# EAGLE library part INTEL-ATOM-C2XXX (library auto-template)
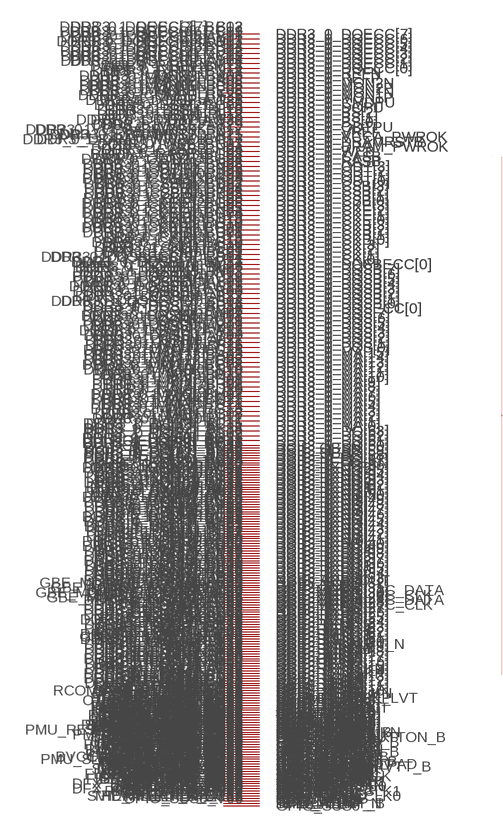
[diagram p0: symbol with the pads of INTEL-ATOM-FOOTPRINT; footprint INTEL-ATOM-FOOTPRINT]

Designator prefix -; gates G-DDR-Memory-0=DDR-Memory-0 G-DDR-Memory-1=DDR-Memory-1 G-Thermal-Signals=Thermal-Signals G-SVID-Signals=SVID-Signals G-Misc-Signals=Misc-Signals G-SATA2-Signals=SATA2-Signals G-SATA3-Signals=SATA3-Signals G-PCIe-Signals=PCIe-Signals G-GbE,-SMBus,-and-NC-SI-Signals=GbE,-SMBus,-and-NC-SI-Signals G-GbE-EEPROM-Signals=GbE-EEPROM-Signals G-LPC-Interface-Signals=LPC-Interface-Signals G-RTC-Well-Signals=RTC-Well-Signals G-GPIO-SUS-Signals=GPIO-SUS-Signals G-PMU-Signals=PMU-Signals G-USB-2-Signals=USB-2-Signals G-SPI-Signals=SPI-Signals G-GPIO-DFX-Signals=GPIO-DFX-Signals G-Clock-Receiver-Signals=Clock-Receiver-Signals G-Tap-Port/ITP-Signals=Tap-Port/ITP-Signals G-Reserved-Signals=Reserved-Signals

## INTEL-ATOM-C2XXX  [INTEL-ATOM-FOOTPRINT]
BRTCX1_PAD_AJ65  G-RTC-Well-Signals:BRTCX1_PAD
BRTCX2_PAD_AJ63  G-RTC-Well-Signals:BRTCX2_PAD
BVCCRTC_EXTPAD_AD55  G-RTC-Well-Signals:BVCCRTC_EXTPAD
CLK14_IN_AM56  G-Clock-Receiver-Signals:CLK14_IN
COREPWROK_AH60  G-RTC-Well-Signals:COREPWROK
CPU_RESET_B_Y63  G-PMU-Signals:CPU_RESET_B
CTBTRIGINOUT_AM47  G-GPIO-DFX-Signals:CTBTRIGINOUT
CTBTRIGOUT_AL47  G-GPIO-DFX-Signals:CTBTRIGOUT
CX_PRDY_B_AW56  G-Tap-Port/ITP-Signals:CX_PRDY_B
CX_PREQ_B_AY53  G-Tap-Port/ITP-Signals:CX_PREQ_B
DDR3_0_BS[0]_BL12  G-DDR-Memory-0:DDR3_0_BS[0]
DDR3_0_BS[1]_BL10  G-DDR-Memory-0:DDR3_0_BS[1]
DDR3_0_BS[2]_BC08  G-DDR-Memory-0:DDR3_0_BS[2]
DDR3_0_CASB_BH26  G-DDR-Memory-0:DDR3_0_CASB
DDR3_0_CK[0]_BA21  G-DDR-Memory-0:DDR3_0_CK[0]
DDR3_0_CK[1]_BF21  G-DDR-Memory-0:DDR3_0_CK[1]
DDR3_0_CK[2]_BG19  G-DDR-Memory-0:DDR3_0_CK[2]
DDR3_0_CK[3]_BB19  G-DDR-Memory-0:DDR3_0_CK[3]
DDR3_0_CKB[0]_BC21  G-DDR-Memory-0:DDR3_0_CKB[0]
DDR3_0_CKB[1]_BG21  G-DDR-Memory-0:DDR3_0_CKB[1]
DDR3_0_CKB[2]_BH19  G-DDR-Memory-0:DDR3_0_CKB[2]
DDR3_0_CKB[3]_BD19  G-DDR-Memory-0:DDR3_0_CKB[3]
DDR3_0_CKE[0]_BG04  G-DDR-Memory-0:DDR3_0_CKE[0]
DDR3_0_CKE[1]_BH05  G-DDR-Memory-0:DDR3_0_CKE[1]
DDR3_0_CKE[2]_BG05  G-DDR-Memory-0:DDR3_0_CKE[2]
DDR3_0_CKE[3]_BH03  G-DDR-Memory-0:DDR3_0_CKE[3]
DDR3_0_CMDPU_BA26  G-DDR-Memory-0:DDR3_0_CMDPU
DDR3_0_CSB[0]_BE25  G-DDR-Memory-0:DDR3_0_CSB[0]
DDR3_0_CSB[1]_BB25  G-DDR-Memory-0:DDR3_0_CSB[1]
DDR3_0_CSB[2]_BD23  G-DDR-Memory-0:DDR3_0_CSB[2]
DDR3_0_CSB[3]_BG26  G-DDR-Memory-0:DDR3_0_CSB[3]
DDR3_0_DQ[0]_AM15  G-DDR-Memory-0:DDR3_0_DQ[0]
DDR3_0_DQ[1]_AM14  G-DDR-Memory-0:DDR3_0_DQ[1]
DDR3_0_DQ[2]_AL08  G-DDR-Memory-0:DDR3_0_DQ[2]
DDR3_0_DQ[3]_AM08  G-DDR-Memory-0:DDR3_0_DQ[3]
DDR3_0_DQ[4]_AM17  G-DDR-Memory-0:DDR3_0_DQ[4]
DDR3_0_DQ[5]_AL15  G-DDR-Memory-0:DDR3_0_DQ[5]
DDR3_0_DQ[6]_AM11  G-DDR-Memory-0:DDR3_0_DQ[6]
DDR3_0_DQ[7]_AM09  G-DDR-Memory-0:DDR3_0_DQ[7]
DDR3_0_DQ[8]_AR14  G-DDR-Memory-0:DDR3_0_DQ[8]
DDR3_0_DQ[9]_AT13  G-DDR-Memory-0:DDR3_0_DQ[9]
DDR3_0_DQ[10]_AT10  G-DDR-Memory-0:DDR3_0_DQ[10]
DDR3_0_DQ[11]_AR11  G-DDR-Memory-0:DDR3_0_DQ[11]
DDR3_0_DQ[12]_AR16  G-DDR-Memory-0:DDR3_0_DQ[12]
DDR3_0_DQ[13]_AT14  G-DDR-Memory-0:DDR3_0_DQ[13]
DDR3_0_DQ[14]_AT08  G-DDR-Memory-0:DDR3_0_DQ[14]
DDR3_0_DQ[15]_AR10  G-DDR-Memory-0:DDR3_0_DQ[15]
DDR3_0_DQ[16]_AY09  G-DDR-Memory-0:DDR3_0_DQ[16]
DDR3_0_DQ[17]_AY11  G-DDR-Memory-0:DDR3_0_DQ[17]
DDR3_0_DQ[18]_AY15  G-DDR-Memory-0:DDR3_0_DQ[18]
DDR3_0_DQ[19]_AW17  G-DDR-Memory-0:DDR3_0_DQ[19]
DDR3_0_DQ[20]_AW08  G-DDR-Memory-0:DDR3_0_DQ[20]
DDR3_0_DQ[21]_AY08  G-DDR-Memory-0:DDR3_0_DQ[21]
DDR3_0_DQ[22]_AY14  G-DDR-Memory-0:DDR3_0_DQ[22]
DDR3_0_DQ[23]_AW15  G-DDR-Memory-0:DDR3_0_DQ[23]
DDR3_0_DQ[24]_AN04  G-DDR-Memory-0:DDR3_0_DQ[24]
DDR3_0_DQ[25]_AN02  G-DDR-Memory-0:DDR3_0_DQ[25]
DDR3_0_DQ[26]_AU01  G-DDR-Memory-0:DDR3_0_DQ[26]
DDR3_0_DQ[27]_AU03  G-DDR-Memory-0:DDR3_0_DQ[27]
DDR3_0_DQ[28]_AL02  G-DDR-Memory-0:DDR3_0_DQ[28]
DDR3_0_DQ[29]_AL04  G-DDR-Memory-0:DDR3_0_DQ[29]
DDR3_0_DQ[30]_AR02  G-DDR-Memory-0:DDR3_0_DQ[30]
DDR3_0_DQ[31]_AR04  G-DDR-Memory-0:DDR3_0_DQ[31]
DDR3_0_DQ[32]_BA32  G-DDR-Memory-0:DDR3_0_DQ[32]
DDR3_0_DQ[33]_BA30  G-DDR-Memory-0:DDR3_0_DQ[33]
DDR3_0_DQ[34]_BF30  G-DDR-Memory-0:DDR3_0_DQ[34]
DDR3_0_DQ[35]_BD30  G-DDR-Memory-0:DDR3_0_DQ[35]
DDR3_0_DQ[36]_BB32  G-DDR-Memory-0:DDR3_0_DQ[36]
DDR3_0_DQ[37]_AY30  G-DDR-Memory-0:DDR3_0_DQ[37]
DDR3_0_DQ[38]_BG29  G-DDR-Memory-0:DDR3_0_DQ[38]
DDR3_0_DQ[39]_BG30  G-DDR-Memory-0:DDR3_0_DQ[39]
DDR3_0_DQ[40]_BL16  G-DDR-Memory-0:DDR3_0_DQ[40]
DDR3_0_DQ[41]_BL17  G-DDR-Memory-0:DDR3_0_DQ[41]
DDR3_0_DQ[42]_BL21  G-DDR-Memory-0:DDR3_0_DQ[42]
DDR3_0_DQ[43]_BN21  G-DDR-Memory-0:DDR3_0_DQ[43]
DDR3_0_DQ[44]_BM16  G-DDR-Memory-0:DDR3_0_DQ[44]
DDR3_0_DQ[45]_BP16  G-DDR-Memory-0:DDR3_0_DQ[45]
DDR3_0_DQ[46]_BP19  G-DDR-Memory-0:DDR3_0_DQ[46]
DDR3_0_DQ[47]_BN19  G-DDR-Memory-0:DDR3_0_DQ[47]
DDR3_0_DQ[48]_BM25  G-DDR-Memory-0:DDR3_0_DQ[48]
DDR3_0_DQ[49]_BP25  G-DDR-Memory-0:DDR3_0_DQ[49]
DDR3_0_DQ[50]_BL28  G-DDR-Memory-0:DDR3_0_DQ[50]
DDR3_0_DQ[51]_BN28  G-DDR-Memory-0:DDR3_0_DQ[51]
DDR3_0_DQ[52]_BL23  G-DDR-Memory-0:DDR3_0_DQ[52]
DDR3_0_DQ[53]_BN23  G-DDR-Memory-0:DDR3_0_DQ[53]
DDR3_0_DQ[54]_BM27  G-DDR-Memory-0:DDR3_0_DQ[54]
DDR3_0_DQ[55]_BP28  G-DDR-Memory-0:DDR3_0_DQ[55]
DDR3_0_DQ[56]_BN32  G-DDR-Memory-0:DDR3_0_DQ[56]
DDR3_0_DQ[57]_BK32  G-DDR-Memory-0:DDR3_0_DQ[57]
DDR3_0_DQ[58]_BN35  G-DDR-Memory-0:DDR3_0_DQ[58]
DDR3_0_DQ[59]_BM36  G-DDR-Memory-0:DDR3_0_DQ[59]
DDR3_0_DQ[60]_BM31  G-DDR-Memory-0:DDR3_0_DQ[60]
DDR3_0_DQ[61]_BL32  G-DDR-Memory-0:DDR3_0_DQ[61]
DDR3_0_DQ[62]_BK35  G-DDR-Memory-0:DDR3_0_DQ[62]
DDR3_0_DQ[63]_BL35  G-DDR-Memory-0:DDR3_0_DQ[63]
DDR3_0_DQECC[0]_AY04  G-DDR-Memory-0:DDR3_0_DQECC[0]
DDR3_0_DQECC[1]_AY02  G-DDR-Memory-0:DDR3_0_DQECC[1]
DDR3_0_DQECC[2]_BD02  G-DDR-Memory-0:DDR3_0_DQECC[2]
DDR3_0_DQECC[3]_BD04  G-DDR-Memory-0:DDR3_0_DQECC[3]
DDR3_0_DQECC[4]_AW03  G-DDR-Memory-0:DDR3_0_DQECC[4]
DDR3_0_DQECC[5]_AY01  G-DDR-Memory-0:DDR3_0_DQECC[5]
DDR3_0_DQECC[6]_BC01  G-DDR-Memory-0:DDR3_0_DQECC[6]
DDR3_0_DQECC[7]_BC03  G-DDR-Memory-0:DDR3_0_DQECC[7]
DDR3_0_DQPU_AW21  G-DDR-Memory-0:DDR3_0_DQPU
DDR3_0_DQS[0]_AL11  G-DDR-Memory-0:DDR3_0_DQS[0]
DDR3_0_DQS[1]_AT07  G-DDR-Memory-0:DDR3_0_DQS[1]
DDR3_0_DQS[2]_AW12  G-DDR-Memory-0:DDR3_0_DQS[2]
DDR3_0_DQS[3]_AP03  G-DDR-Memory-0:DDR3_0_DQS[3]
DDR3_0_DQS[4]_BD29  G-DDR-Memory-0:DDR3_0_DQS[4]
DDR3_0_DQS[5]_BM18  G-DDR-Memory-0:DDR3_0_DQS[5]
DDR3_0_DQS[6]_BN26  G-DDR-Memory-0:DDR3_0_DQS[6]
DDR3_0_DQS[7]_BP34  G-DDR-Memory-0:DDR3_0_DQS[7]
DDR3_0_DQSB[0]_AL12  G-DDR-Memory-0:DDR3_0_DQSB[0]
DDR3_0_DQSB[1]_AR07  G-DDR-Memory-0:DDR3_0_DQSB[1]
DDR3_0_DQSB[2]_AW11  G-DDR-Memory-0:DDR3_0_DQSB[2]
DDR3_0_DQSB[3]_AP01  G-DDR-Memory-0:DDR3_0_DQSB[3]
DDR3_0_DQSB[4]_BC29  G-DDR-Memory-0:DDR3_0_DQSB[4]
DDR3_0_DQSB[5]_BN17  G-DDR-Memory-0:DDR3_0_DQSB[5]
DDR3_0_DQSB[6]_BL26  G-DDR-Memory-0:DDR3_0_DQSB[6]
DDR3_0_DQSB[7]_BM34  G-DDR-Memory-0:DDR3_0_DQSB[7]
DDR3_0_DQSBECC[0]_BB04  G-DDR-Memory-0:DDR3_0_DQSBECC[0]
DDR3_0_DQSECC[0]_BB02  G-DDR-Memory-0:DDR3_0_DQSECC[0]
DDR3_0_DRAM_PWROK_BG17  G-DDR-Memory-0:DDR3_0_DRAM_PWROK
DDR3_0_DRAMRSTB_BA25  G-DDR-Memory-0:DDR3_0_DRAMRSTB
DDR3_0_MA[0]_BH11  G-DDR-Memory-0:DDR3_0_MA[0]
DDR3_0_MA[1]_BL08  G-DDR-Memory-0:DDR3_0_MA[1]
DDR3_0_MA[2]_BG13  G-DDR-Memory-0:DDR3_0_MA[2]
DDR3_0_MA[3]_BG11  G-DDR-Memory-0:DDR3_0_MA[3]
DDR3_0_MA[4]_BD13  G-DDR-Memory-0:DDR3_0_MA[4]
DDR3_0_MA[5]_BM07  G-DDR-Memory-0:DDR3_0_MA[5]
DDR3_0_MA[6]_BD10  G-DDR-Memory-0:DDR3_0_MA[6]
DDR3_0_MA[7]_BH08  G-DDR-Memory-0:DDR3_0_MA[7]
DDR3_0_MA[8]_BD08  G-DDR-Memory-0:DDR3_0_MA[8]
DDR3_0_MA[9]_BD15  G-DDR-Memory-0:DDR3_0_MA[9]
DDR3_0_MA[10]_BN10  G-DDR-Memory-0:DDR3_0_MA[10]
DDR3_0_MA[11]_BG08  G-DDR-Memory-0:DDR3_0_MA[11]
DDR3_0_MA[12]_BD07  G-DDR-Memory-0:DDR3_0_MA[12]
DDR3_0_MA[13]_BA23  G-DDR-Memory-0:DDR3_0_MA[13]
DDR3_0_MA[14]_BC11  G-DDR-Memory-0:DDR3_0_MA[14]
DDR3_0_MA[15]_BF15  G-DDR-Memory-0:DDR3_0_MA[15]
DDR3_0_MON1N_BP06  G-DDR-Memory-0:DDR3_0_MON1N
DDR3_0_MON1P_BP08  G-DDR-Memory-0:DDR3_0_MON1P
DDR3_0_MON2N_BK03  G-DDR-Memory-0:DDR3_0_MON2N
DDR3_0_MON2P_BK05  G-DDR-Memory-0:DDR3_0_MON2P
DDR3_0_ODT[0]_BD26  G-DDR-Memory-0:DDR3_0_ODT[0]
DDR3_0_ODT[1]_BB26  G-DDR-Memory-0:DDR3_0_ODT[1]
DDR3_0_ODT[2]_BH25  G-DDR-Memory-0:DDR3_0_ODT[2]
DDR3_0_ODT[3]_BG25  G-DDR-Memory-0:DDR3_0_ODT[3]
DDR3_0_ODTPU_AW20  G-DDR-Memory-0:DDR3_0_ODTPU
DDR3_0_RASB_BG23  G-DDR-Memory-0:DDR3_0_RASB
DDR3_0_REFN_BM13  G-DDR-Memory-0:DDR3_0_REFN
DDR3_0_REFP_BN12  G-DDR-Memory-0:DDR3_0_REFP
DDR3_0_VCCA_PWROK_BE17  G-DDR-Memory-0:DDR3_0_VCCA_PWROK
DDR3_0_VREF_AY29  G-DDR-Memory-0:DDR3_0_VREF
DDR3_0_WEB_BC23  G-DDR-Memory-0:DDR3_0_WEB
DDR3_1_BS[0]_N18  G-DDR-Memory-1:DDR3_1_BS[0]
DDR3_1_BS[1]_H18  G-DDR-Memory-1:DDR3_1_BS[1]
DDR3_1_BS[2]_H25  G-DDR-Memory-1:DDR3_1_BS[2]
DDR3_1_CASB_H04  G-DDR-Memory-1:DDR3_1_CASB
DDR3_1_CK[0]_C09  G-DDR-Memory-1:DDR3_1_CK[0]
DDR3_1_CK[1]_G09  G-DDR-Memory-1:DDR3_1_CK[1]
DDR3_1_CK[2]_H10  G-DDR-Memory-1:DDR3_1_CK[2]
DDR3_1_CK[3]_J13  G-DDR-Memory-1:DDR3_1_CK[3]
DDR3_1_CKB[0]_D08  G-DDR-Memory-1:DDR3_1_CKB[0]
DDR3_1_CKB[1]_H09  G-DDR-Memory-1:DDR3_1_CKB[1]
DDR3_1_CKB[2]_G10  G-DDR-Memory-1:DDR3_1_CKB[2]
DDR3_1_CKB[3]_L13  G-DDR-Memory-1:DDR3_1_CKB[3]
DDR3_1_CKE[0]_N26  G-DDR-Memory-1:DDR3_1_CKE[0]
DDR3_1_CKE[1]_N25  G-DDR-Memory-1:DDR3_1_CKE[1]
DDR3_1_CKE[2]_L25  G-DDR-Memory-1:DDR3_1_CKE[2]
DDR3_1_CKE[3]_L26  G-DDR-Memory-1:DDR3_1_CKE[3]
DDR3_1_CMDPU_T25  G-DDR-Memory-1:DDR3_1_CMDPU
DDR3_1_CSB[0]_K03  G-DDR-Memory-1:DDR3_1_CSB[0]
DDR3_1_CSB[1]_N04  G-DDR-Memory-1:DDR3_1_CSB[1]
DDR3_1_CSB[2]_L07  G-DDR-Memory-1:DDR3_1_CSB[2]
DDR3_1_CSB[3]_K04  G-DDR-Memory-1:DDR3_1_CSB[3]
DDR3_1_DQ[0]_B39  G-DDR-Memory-1:DDR3_1_DQ[0]
DDR3_1_DQ[1]_D39  G-DDR-Memory-1:DDR3_1_DQ[1]
DDR3_1_DQ[2]_B35  G-DDR-Memory-1:DDR3_1_DQ[2]
DDR3_1_DQ[3]_D35  G-DDR-Memory-1:DDR3_1_DQ[3]
DDR3_1_DQ[4]_A39  G-DDR-Memory-1:DDR3_1_DQ[4]
DDR3_1_DQ[5]_C40  G-DDR-Memory-1:DDR3_1_DQ[5]
DDR3_1_DQ[6]_A36  G-DDR-Memory-1:DDR3_1_DQ[6]
DDR3_1_DQ[7]_C36  G-DDR-Memory-1:DDR3_1_DQ[7]
DDR3_1_DQ[8]_B32  G-DDR-Memory-1:DDR3_1_DQ[8]
DDR3_1_DQ[9]_C31  G-DDR-Memory-1:DDR3_1_DQ[9]
DDR3_1_DQ[10]_A27  G-DDR-Memory-1:DDR3_1_DQ[10]
DDR3_1_DQ[11]_C27  G-DDR-Memory-1:DDR3_1_DQ[11]
DDR3_1_DQ[12]_E32  G-DDR-Memory-1:DDR3_1_DQ[12]
DDR3_1_DQ[13]_D32  G-DDR-Memory-1:DDR3_1_DQ[13]
DDR3_1_DQ[14]_D28  G-DDR-Memory-1:DDR3_1_DQ[14]
DDR3_1_DQ[15]_B28  G-DDR-Memory-1:DDR3_1_DQ[15]
DDR3_1_DQ[16]_D23  G-DDR-Memory-1:DDR3_1_DQ[16]
DDR3_1_DQ[17]_B23  G-DDR-Memory-1:DDR3_1_DQ[17]
DDR3_1_DQ[18]_D19  G-DDR-Memory-1:DDR3_1_DQ[18]
DDR3_1_DQ[19]_B19  G-DDR-Memory-1:DDR3_1_DQ[19]
DDR3_1_DQ[20]_C24  G-DDR-Memory-1:DDR3_1_DQ[20]
DDR3_1_DQ[21]_D24  G-DDR-Memory-1:DDR3_1_DQ[21]
DDR3_1_DQ[22]_B21  G-DDR-Memory-1:DDR3_1_DQ[22]
DDR3_1_DQ[23]_D21  G-DDR-Memory-1:DDR3_1_DQ[23]
DDR3_1_DQ[24]_H30  G-DDR-Memory-1:DDR3_1_DQ[24]
DDR3_1_DQ[25]_H29  G-DDR-Memory-1:DDR3_1_DQ[25]
DDR3_1_DQ[26]_N32  G-DDR-Memory-1:DDR3_1_DQ[26]
DDR3_1_DQ[27]_L32  G-DDR-Memory-1:DDR3_1_DQ[27]
DDR3_1_DQ[28]_H32  G-DDR-Memory-1:DDR3_1_DQ[28]
DDR3_1_DQ[29]_J30  G-DDR-Memory-1:DDR3_1_DQ[29]
DDR3_1_DQ[30]_M30  G-DDR-Memory-1:DDR3_1_DQ[30]
DDR3_1_DQ[31]_P30  G-DDR-Memory-1:DDR3_1_DQ[31]
DDR3_1_DQ[32]_R15  G-DDR-Memory-1:DDR3_1_DQ[32]
DDR3_1_DQ[33]_R14  G-DDR-Memory-1:DDR3_1_DQ[33]
DDR3_1_DQ[34]_R09  G-DDR-Memory-1:DDR3_1_DQ[34]
DDR3_1_DQ[35]_R11  G-DDR-Memory-1:DDR3_1_DQ[35]
DDR3_1_DQ[36]_T17  G-DDR-Memory-1:DDR3_1_DQ[36]
DDR3_1_DQ[37]_U15  G-DDR-Memory-1:DDR3_1_DQ[37]
DDR3_1_DQ[38]_R08  G-DDR-Memory-1:DDR3_1_DQ[38]
DDR3_1_DQ[39]_U08  G-DDR-Memory-1:DDR3_1_DQ[39]
DDR3_1_DQ[40]_U04  G-DDR-Memory-1:DDR3_1_DQ[40]
DDR3_1_DQ[41]_U02  G-DDR-Memory-1:DDR3_1_DQ[41]
DDR3_1_DQ[42]_AB02  G-DDR-Memory-1:DDR3_1_DQ[42]
DDR3_1_DQ[43]_AB04  G-DDR-Memory-1:DDR3_1_DQ[43]
DDR3_1_DQ[44]_T03  G-DDR-Memory-1:DDR3_1_DQ[44]
DDR3_1_DQ[45]_T01  G-DDR-Memory-1:DDR3_1_DQ[45]
DDR3_1_DQ[46]_Y04  G-DDR-Memory-1:DDR3_1_DQ[46]
DDR3_1_DQ[47]_Y02  G-DDR-Memory-1:DDR3_1_DQ[47]
DDR3_1_DQ[48]_W14  G-DDR-Memory-1:DDR3_1_DQ[48]
DDR3_1_DQ[49]_W13  G-DDR-Memory-1:DDR3_1_DQ[49]
DDR3_1_DQ[50]_W10  G-DDR-Memory-1:DDR3_1_DQ[50]
DDR3_1_DQ[51]_Y11  G-DDR-Memory-1:DDR3_1_DQ[51]
DDR3_1_DQ[52]_Y16  G-DDR-Memory-1:DDR3_1_DQ[52]
DDR3_1_DQ[53]_Y14  G-DDR-Memory-1:DDR3_1_DQ[53]
DDR3_1_DQ[54]_W08  G-DDR-Memory-1:DDR3_1_DQ[54]
DDR3_1_DQ[55]_Y10  G-DDR-Memory-1:DDR3_1_DQ[55]
DDR3_1_DQ[56]_AC08  G-DDR-Memory-1:DDR3_1_DQ[56]
DDR3_1_DQ[57]_AD08  G-DDR-Memory-1:DDR3_1_DQ[57]
DDR3_1_DQ[58]_AD15  G-DDR-Memory-1:DDR3_1_DQ[58]
DDR3_1_DQ[59]_AC17  G-DDR-Memory-1:DDR3_1_DQ[59]
DDR3_1_DQ[60]_AC11  G-DDR-Memory-1:DDR3_1_DQ[60]
DDR3_1_DQ[61]_AC09  G-DDR-Memory-1:DDR3_1_DQ[61]
DDR3_1_DQ[62]_AC14  G-DDR-Memory-1:DDR3_1_DQ[62]
DDR3_1_DQ[63]_AC15  G-DDR-Memory-1:DDR3_1_DQ[63]
DDR3_1_DQECC[0]_D15  G-DDR-Memory-1:DDR3_1_DQECC[0]
DDR3_1_DQECC[1]_C15  G-DDR-Memory-1:DDR3_1_DQECC[1]
DDR3_1_DQECC[2]_D12  G-DDR-Memory-1:DDR3_1_DQECC[2]
DDR3_1_DQECC[3]_E12  G-DDR-Memory-1:DDR3_1_DQECC[3]
DDR3_1_DQECC[4]_D17  G-DDR-Memory-1:DDR3_1_DQECC[4]
DDR3_1_DQECC[5]_B17  G-DDR-Memory-1:DDR3_1_DQECC[5]
DDR3_1_DQECC[6]_C13  G-DDR-Memory-1:DDR3_1_DQECC[6]
DDR3_1_DQECC[7]_B12  G-DDR-Memory-1:DDR3_1_DQECC[7]
DDR3_1_DQPU_T26  G-DDR-Memory-1:DDR3_1_DQPU
DDR3_1_DQS[0]_D37  G-DDR-Memory-1:DDR3_1_DQS[0]
DDR3_1_DQS[1]_D30  G-DDR-Memory-1:DDR3_1_DQS[1]
DDR3_1_DQS[2]_A21  G-DDR-Memory-1:DDR3_1_DQS[2]
DDR3_1_DQS[3]_M29  G-DDR-Memory-1:DDR3_1_DQS[3]
DDR3_1_DQS[4]_U11  G-DDR-Memory-1:DDR3_1_DQS[4]
DDR3_1_DQS[5]_W01  G-DDR-Memory-1:DDR3_1_DQS[5]
DDR3_1_DQS[6]_Y07  G-DDR-Memory-1:DDR3_1_DQS[6]
DDR3_1_DQS[7]_AD12  G-DDR-Memory-1:DDR3_1_DQS[7]
DDR3_1_DQSB[0]_B37  G-DDR-Memory-1:DDR3_1_DQSB[0]
DDR3_1_DQSB[1]_B30  G-DDR-Memory-1:DDR3_1_DQSB[1]
DDR3_1_DQSB[2]_C22  G-DDR-Memory-1:DDR3_1_DQSB[2]
DDR3_1_DQSB[3]_L29  G-DDR-Memory-1:DDR3_1_DQSB[3]
DDR3_1_DQSB[4]_U12  G-DDR-Memory-1:DDR3_1_DQSB[4]
DDR3_1_DQSB[5]_W03  G-DDR-Memory-1:DDR3_1_DQSB[5]
DDR3_1_DQSB[6]_W07  G-DDR-Memory-1:DDR3_1_DQSB[6]
DDR3_1_DQSB[7]_AD11  G-DDR-Memory-1:DDR3_1_DQSB[7]
DDR3_1_DQSBECC[0]_D14  G-DDR-Memory-1:DDR3_1_DQSBECC[0]
DDR3_1_DQSECC[0]_B14  G-DDR-Memory-1:DDR3_1_DQSECC[0]
DDR3_1_DRAM_PWROK_L17  G-DDR-Memory-1:DDR3_1_DRAM_PWROK
DDR3_1_DRAMRSTB_N11  G-DDR-Memory-1:DDR3_1_DRAMRSTB
DDR3_1_MA[0]_H17  G-DDR-Memory-1:DDR3_1_MA[0]
DDR3_1_MA[1]_G17  G-DDR-Memory-1:DDR3_1_MA[1]
DDR3_1_MA[2]_G18  G-DDR-Memory-1:DDR3_1_MA[2]
DDR3_1_MA[3]_P21  G-DDR-Memory-1:DDR3_1_MA[3]
DDR3_1_MA[4]_M21  G-DDR-Memory-1:DDR3_1_MA[4]
DDR3_1_MA[5]_H22  G-DDR-Memory-1:DDR3_1_MA[5]
DDR3_1_MA[6]_J21  G-DDR-Memory-1:DDR3_1_MA[6]
DDR3_1_MA[7]_J22  G-DDR-Memory-1:DDR3_1_MA[7]
DDR3_1_MA[8]_H21  G-DDR-Memory-1:DDR3_1_MA[8]
DDR3_1_MA[9]_M22  G-DDR-Memory-1:DDR3_1_MA[9]
DDR3_1_MA[10]_L18  G-DDR-Memory-1:DDR3_1_MA[10]
DDR3_1_MA[11]_P22  G-DDR-Memory-1:DDR3_1_MA[11]
DDR3_1_MA[12]_G25  G-DDR-Memory-1:DDR3_1_MA[12]
DDR3_1_MA[13]_G03  G-DDR-Memory-1:DDR3_1_MA[13]
DDR3_1_MA[14]_G26  G-DDR-Memory-1:DDR3_1_MA[14]
DDR3_1_MA[15]_H26  G-DDR-Memory-1:DDR3_1_MA[15]
DDR3_1_MON1N_C05  G-DDR-Memory-1:DDR3_1_MON1N
DDR3_1_MON1P_E05  G-DDR-Memory-1:DDR3_1_MON1P
DDR3_1_MON2N_A06  G-DDR-Memory-1:DDR3_1_MON2N
DDR3_1_MON2P_A08  G-DDR-Memory-1:DDR3_1_MON2P
DDR3_1_ODT[0]_L02  G-DDR-Memory-1:DDR3_1_ODT[0]
DDR3_1_ODT[1]_N02  G-DDR-Memory-1:DDR3_1_ODT[1]
DDR3_1_ODT[2]_N08  G-DDR-Memory-1:DDR3_1_ODT[2]
DDR3_1_ODT[3]_L04  G-DDR-Memory-1:DDR3_1_ODT[3]
DDR3_1_ODTPU_T32  G-DDR-Memory-1:DDR3_1_ODTPU
DDR3_1_RASB_L08  G-DDR-Memory-1:DDR3_1_RASB
DDR3_1_REFN_L14  G-DDR-Memory-1:DDR3_1_REFN
DDR3_1_REFP_J14  G-DDR-Memory-1:DDR3_1_REFP
DDR3_1_VCCA_PWROK_N17  G-DDR-Memory-1:DDR3_1_VCCA_PWROK
DDR3_1_VREF_R29  G-DDR-Memory-1:DDR3_1_VREF
DDR3_1_WEB_N07  G-DDR-Memory-1:DDR3_1_WEB
DFX_PORT[0]_BC64  G-GPIO-DFX-Signals:DFX_PORT[0]
DFX_PORT[1]_AY58  G-GPIO-DFX-Signals:DFX_PORT[1]
DFX_PORT[2]_AW58  G-GPIO-DFX-Signals:DFX_PORT[2]
DFX_PORT[3]_AR57  G-GPIO-DFX-Signals:DFX_PORT[3]
DFX_PORT[4]_AT54  G-GPIO-DFX-Signals:DFX_PORT[4]
DFX_PORT[5]_AY56  G-GPIO-DFX-Signals:DFX_PORT[5]
DFX_PORT[6]_AY63  G-GPIO-DFX-Signals:DFX_PORT[6]
DFX_PORT[7]_AW62  G-GPIO-DFX-Signals:DFX_PORT[7]
DFX_PORT[8]_AY59  G-GPIO-DFX-Signals:DFX_PORT[8]
DFX_PORT[9]_AT60  G-GPIO-DFX-Signals:DFX_PORT[9]
DFX_PORT[10]_BB63  G-GPIO-DFX-Signals:DFX_PORT[10]
DFX_PORT[11]_AT59  G-GPIO-DFX-Signals:DFX_PORT[11]
DFX_PORT[12]_AW64  G-GPIO-DFX-Signals:DFX_PORT[12]
DFX_PORT[13]_AW66  G-GPIO-DFX-Signals:DFX_PORT[13]
DFX_PORT[14]_AY65  G-GPIO-DFX-Signals:DFX_PORT[14]
DFX_PORT[15]_AR59  G-GPIO-DFX-Signals:DFX_PORT[15]
DFX_PORT_CLK0_AV63  G-GPIO-DFX-Signals:DFX_PORT_CLK0
DFX_PORT_CLK1_AV65  G-GPIO-DFX-Signals:DFX_PORT_CLK1
ERROR0_B_AL65  G-Misc-Signals:ERROR0_B
ERROR1_B_AL62  G-Misc-Signals:ERROR1_B
ERROR2_B_AL63  G-Misc-Signals:ERROR2_B
FLEX_CLK_SE0_AH59  G-PCIe-Signals:FLEX_CLK_SE0
FLEX_CLK_SE1_AG56  G-PCIe-Signals:FLEX_CLK_SE1
GBE_EE_CS_N_R59  G-GbE-EEPROM-Signals:GBE_EE_CS_N
GBE_EE_DI_W51  G-GbE-EEPROM-Signals:GBE_EE_DI
GBE_EE_DO_W60  G-GbE-EEPROM-Signals:GBE_EE_DO
GBE_EE_SK_T50  G-GbE-EEPROM-Signals:GBE_EE_SK
GBE_LED0_P46  G-GbE,-SMBus,-and-NC-SI-Signals:GBE_LED0
GBE_LED1_W50  G-GbE,-SMBus,-and-NC-SI-Signals:GBE_LED1
GBE_LED2_P48  G-GbE,-SMBus,-and-NC-SI-Signals:GBE_LED2
GBE_LED3_R58  G-GbE,-SMBus,-and-NC-SI-Signals:GBE_LED3
GBE_MDIO0_I2C_CLK_W56  G-GbE,-SMBus,-and-NC-SI-Signals:GBE_MDIO0_I2C_CLK
GBE_MDIO0_I2C_DATA_W59  G-GbE,-SMBus,-and-NC-SI-Signals:GBE_MDIO0_I2C_DATA
GBE_MDIO1_I2C_CLK_Y54  G-GbE,-SMBus,-and-NC-SI-Signals:GBE_MDIO1_I2C_CLK
GBE_MDIO1_I2C_DATA_Y53  G-GbE,-SMBus,-and-NC-SI-Signals:GBE_MDIO1_I2C_DATA
GBE_OBSN_H50  G-GbE,-SMBus,-and-NC-SI-Signals:GBE_OBSN
GBE_OBSP_G50  G-GbE,-SMBus,-and-NC-SI-Signals:GBE_OBSP
GBE_REFCLKN_D50  G-GbE,-SMBus,-and-NC-SI-Signals:GBE_REFCLKN
GBE_REFCLKP_B50  G-GbE,-SMBus,-and-NC-SI-Signals:GBE_REFCLKP
GBE_RXN[0]_K48  G-GbE,-SMBus,-and-NC-SI-Signals:GBE_RXN[0]
GBE_RXN[1]_L46  G-GbE,-SMBus,-and-NC-SI-Signals:GBE_RXN[1]
GBE_RXN[2]_L44  G-GbE,-SMBus,-and-NC-SI-Signals:GBE_RXN[2]
GBE_RXN[3]_H42  G-GbE,-SMBus,-and-NC-SI-Signals:GBE_RXN[3]
GBE_RXP[0]_H48  G-GbE,-SMBus,-and-NC-SI-Signals:GBE_RXP[0]
GBE_RXP[1]_J46  G-GbE,-SMBus,-and-NC-SI-Signals:GBE_RXP[1]
GBE_RXP[2]_J44  G-GbE,-SMBus,-and-NC-SI-Signals:GBE_RXP[2]
GBE_RXP[3]_G42  G-GbE,-SMBus,-and-NC-SI-Signals:GBE_RXP[3]
GBE_SDP0_0_T58  G-GbE,-SMBus,-and-NC-SI-Signals:GBE_SDP0_0
GBE_SDP0_1_T48  G-GbE,-SMBus,-and-NC-SI-Signals:GBE_SDP0_1
GBE_SMBALRT_N_T55  G-GbE,-SMBus,-and-NC-SI-Signals:GBE_SMBALRT_N
GBE_SMBCLK_P50  G-GbE,-SMBus,-and-NC-SI-Signals:GBE_SMBCLK
GBE_SMBD_T59  G-GbE,-SMBus,-and-NC-SI-Signals:GBE_SMBD
GBE_TXN[0]_B48  G-GbE,-SMBus,-and-NC-SI-Signals:GBE_TXN[0]
GBE_TXN[1]_B46  G-GbE,-SMBus,-and-NC-SI-Signals:GBE_TXN[1]
GBE_TXN[2]_B44  G-GbE,-SMBus,-and-NC-SI-Signals:GBE_TXN[2]
GBE_TXN[3]_A42  G-GbE,-SMBus,-and-NC-SI-Signals:GBE_TXN[3]
GBE_TXP[0]_D48  G-GbE,-SMBus,-and-NC-SI-Signals:GBE_TXP[0]
GBE_TXP[1]_D46  G-GbE,-SMBus,-and-NC-SI-Signals:GBE_TXP[1]
GBE_TXP[2]_D44  G-GbE,-SMBus,-and-NC-SI-Signals:GBE_TXP[2]
GBE_TXP[3]_C42  G-GbE,-SMBus,-and-NC-SI-Signals:GBE_TXP[3]
GPIO_SUS0_V66  G-GPIO-SUS-Signals:GPIO_SUS0
GPIO_SUS1_W54  G-GbE,-SMBus,-and-NC-SI-Signals:GPIO_SUS1
GPIO_SUS2_T53  G-GPIO-SUS-Signals:GPIO_SUS2
HPLL_REFN_J37  G-Clock-Receiver-Signals:HPLL_REFN
HPLL_REFP_L37  G-Clock-Receiver-Signals:HPLL_REFP
IERR_B_AM52  G-Misc-Signals:IERR_B
ILB_SERIRQ_AT50  G-LPC-Interface-Signals:ILB_SERIRQ
LPC_AD0_AG54  G-LPC-Interface-Signals:LPC_AD0
LPC_AD1_AM53  G-LPC-Interface-Signals:LPC_AD1
LPC_AD2_AL53  G-LPC-Interface-Signals:LPC_AD2
LPC_AD3_AG59  G-LPC-Interface-Signals:LPC_AD3
LPC_CLKOUT0_AG51  G-LPC-Interface-Signals:LPC_CLKOUT0
LPC_CLKOUT1_AM49  G-LPC-Interface-Signals:LPC_CLKOUT1
LPC_CLKRUNB_AH48  G-LPC-Interface-Signals:LPC_CLKRUNB
LPC_FRAMEB_AH56  G-LPC-Interface-Signals:LPC_FRAMEB
MCERR_B_AL52  G-Misc-Signals:MCERR_B
MEMHOT_B_AL46  G-Thermal-Signals:MEMHOT_B
NCSI_ARB_OUT_Y59  G-GbE,-SMBus,-and-NC-SI-Signals:NCSI_ARB_OUT
NCSI_RXD1_V63  G-GbE,-SMBus,-and-NC-SI-Signals:NCSI_RXD1
NMI_AL56  G-Misc-Signals:NMI
PCIE_OBSN_BA38  G-PCIe-Signals:PCIE_OBSN
PCIE_OBSP_BC38  G-PCIe-Signals:PCIE_OBSP
PCIE_REFCLKN_BD49  G-PCIe-Signals:PCIE_REFCLKN
PCIE_REFCLKP_BB49  G-PCIe-Signals:PCIE_REFCLKP
PCIE_RXN[0]_BE64  G-PCIe-Signals:PCIE_RXN[0]
PCIE_RXN[1]_BH64  G-PCIe-Signals:PCIE_RXN[1]
PCIE_RXN[2]_BK62  G-PCIe-Signals:PCIE_RXN[2]
PCIE_RXN[3]_BH58  G-PCIe-Signals:PCIE_RXN[3]
PCIE_RXN[4]_BH57  G-PCIe-Signals:PCIE_RXN[4]
PCIE_RXN[5]_BF54  G-PCIe-Signals:PCIE_RXN[5]
PCIE_RXN[6]_BG53  G-PCIe-Signals:PCIE_RXN[6]
PCIE_RXN[7]_BG50  G-PCIe-Signals:PCIE_RXN[7]
PCIE_RXN[8]_BH49  G-PCIe-Signals:PCIE_RXN[8]
PCIE_RXN[9]_BF46  G-PCIe-Signals:PCIE_RXN[9]
PCIE_RXN[10]_BG45  G-PCIe-Signals:PCIE_RXN[10]
PCIE_RXN[11]_BH42  G-PCIe-Signals:PCIE_RXN[11]
PCIE_RXN[12]_BG41  G-PCIe-Signals:PCIE_RXN[12]
PCIE_RXN[13]_BG38  G-PCIe-Signals:PCIE_RXN[13]
PCIE_RXN[14]_BF37  G-PCIe-Signals:PCIE_RXN[14]
PCIE_RXN[15]_BG34  G-PCIe-Signals:PCIE_RXN[15]
PCIE_RXP[0]_BE63  G-PCIe-Signals:PCIE_RXP[0]
PCIE_RXP[1]_BJ63  G-PCIe-Signals:PCIE_RXP[1]
PCIE_RXP[2]_BJ62  G-PCIe-Signals:PCIE_RXP[2]
PCIE_RXP[3]_BG58  G-PCIe-Signals:PCIE_RXP[3]
PCIE_RXP[4]_BG57  G-PCIe-Signals:PCIE_RXP[4]
PCIE_RXP[5]_BD54  G-PCIe-Signals:PCIE_RXP[5]
PCIE_RXP[6]_BF53  G-PCIe-Signals:PCIE_RXP[6]
PCIE_RXP[7]_BE50  G-PCIe-Signals:PCIE_RXP[7]
PCIE_RXP[8]_BG49  G-PCIe-Signals:PCIE_RXP[8]
PCIE_RXP[9]_BD46  G-PCIe-Signals:PCIE_RXP[9]
PCIE_RXP[10]_BF45  G-PCIe-Signals:PCIE_RXP[10]
PCIE_RXP[11]_BG42  G-PCIe-Signals:PCIE_RXP[11]
PCIE_RXP[12]_BE41  G-PCIe-Signals:PCIE_RXP[12]
PCIE_RXP[13]_BF38  G-PCIe-Signals:PCIE_RXP[13]
PCIE_RXP[14]_BD37  G-PCIe-Signals:PCIE_RXP[14]
PCIE_RXP[15]_BE34  G-PCIe-Signals:PCIE_RXP[15]
PCIE_TXN[0]_BL61  G-PCIe-Signals:PCIE_TXN[0]
PCIE_TXN[1]_BM58  G-PCIe-Signals:PCIE_TXN[1]
PCIE_TXN[2]_BN57  G-PCIe-Signals:PCIE_TXN[2]
PCIE_TXN[3]_BN55  G-PCIe-Signals:PCIE_TXN[3]
PCIE_TXN[4]_BK54  G-PCIe-Signals:PCIE_TXN[4]
PCIE_TXN[5]_BL53  G-PCIe-Signals:PCIE_TXN[5]
PCIE_TXN[6]_BM52  G-PCIe-Signals:PCIE_TXN[6]
PCIE_TXN[7]_BL50  G-PCIe-Signals:PCIE_TXN[7]
PCIE_TXN[8]_BM49  G-PCIe-Signals:PCIE_TXN[8]
PCIE_TXN[9]_BL48  G-PCIe-Signals:PCIE_TXN[9]
PCIE_TXN[10]_BL46  G-PCIe-Signals:PCIE_TXN[10]
PCIE_TXN[11]_BL44  G-PCIe-Signals:PCIE_TXN[11]
PCIE_TXN[12]_BM43  G-PCIe-Signals:PCIE_TXN[12]
PCIE_TXN[13]_BN41  G-PCIe-Signals:PCIE_TXN[13]
PCIE_TXN[14]_BK40  G-PCIe-Signals:PCIE_TXN[14]
PCIE_TXN[15]_BL39  G-PCIe-Signals:PCIE_TXN[15]
PCIE_TXP[0]_BK60  G-PCIe-Signals:PCIE_TXP[0]
PCIE_TXP[1]_BL59  G-PCIe-Signals:PCIE_TXP[1]
PCIE_TXP[2]_BL57  G-PCIe-Signals:PCIE_TXP[2]
PCIE_TXP[3]_BL55  G-PCIe-Signals:PCIE_TXP[3]
PCIE_TXP[4]_BM54  G-PCIe-Signals:PCIE_TXP[4]
PCIE_TXP[5]_BN53  G-PCIe-Signals:PCIE_TXP[5]
PCIE_TXP[6]_BL52  G-PCIe-Signals:PCIE_TXP[6]
PCIE_TXP[7]_BN50  G-PCIe-Signals:PCIE_TXP[7]
PCIE_TXP[8]_BP49  G-PCIe-Signals:PCIE_TXP[8]
PCIE_TXP[9]_BN48  G-PCIe-Signals:PCIE_TXP[9]
PCIE_TXP[10]_BN46  G-PCIe-Signals:PCIE_TXP[10]
PCIE_TXP[11]_BN44  G-PCIe-Signals:PCIE_TXP[11]
PCIE_TXP[12]_BP43  G-PCIe-Signals:PCIE_TXP[12]
PCIE_TXP[13]_BL41  G-PCIe-Signals:PCIE_TXP[13]
PCIE_TXP[14]_BM40  G-PCIe-Signals:PCIE_TXP[14]
PCIE_TXP[15]_BN39  G-PCIe-Signals:PCIE_TXP[15]
PMU_PLTRST_B_AE62  G-PMU-Signals:PMU_PLTRST_B
PMU_PWRBTN_B_AC49  G-PMU-Signals:PMU_PWRBTN_B
PMU_RESETBUTTON_B_AM58  G-PMU-Signals:PMU_RESETBUTTON_B
PMU_SLP_DDRVTT_B_AC52  G-PMU-Signals:PMU_SLP_DDRVTT_B
PMU_SLP_LAN_B_Y50  G-PMU-Signals:PMU_SLP_LAN_B
PMU_SLP_S3_B_AF65  G-PMU-Signals:PMU_SLP_S3_B
PMU_SLP_S45_B_V64  G-PMU-Signals:PMU_SLP_S45_B
PMU_SUSCLK_AD58  G-PMU-Signals:PMU_SUSCLK
PMU_WAKE_B_AD66  G-PMU-Signals:PMU_WAKE_B
PROCHOT_B_BB59  G-Thermal-Signals:PROCHOT_B
RCOMP_CORE_LVT_AG46  G-GPIO-DFX-Signals:RCOMP_CORE_LVT
RSMRST_B_AC47  G-RTC-Well-Signals:RSMRST_B
RTEST_B_AD50  G-RTC-Well-Signals:RTEST_B
SATA3_GP0_AH51  G-SATA3-Signals:SATA3_GP0
SATA3_LEDN_AH54  G-SATA3-Signals:SATA3_LEDN
SATA3_OBSN_R53  G-SATA3-Signals:SATA3_OBSN
SATA3_OBSP_R55  G-SATA3-Signals:SATA3_OBSP
SATA3_REFCLKN_L59  G-SATA3-Signals:SATA3_REFCLKN
SATA3_REFCLKP_L57  G-SATA3-Signals:SATA3_REFCLKP
SATA3_RXN[0]_M64  G-SATA3-Signals:SATA3_RXN[0]
SATA3_RXN[1]_L65  G-SATA3-Signals:SATA3_RXN[1]
SATA3_RXP[0]_M62  G-SATA3-Signals:SATA3_RXP[0]
SATA3_RXP[1]_L63  G-SATA3-Signals:SATA3_RXP[1]
SATA3_TXN[0]_T64  G-SATA3-Signals:SATA3_TXN[0]
SATA3_TXN[1]_R65  G-SATA3-Signals:SATA3_TXN[1]
SATA3_TXP[0]_R66  G-SATA3-Signals:SATA3_TXP[0]
SATA3_TXP[1]_R63  G-SATA3-Signals:SATA3_TXP[1]
SATA_GP0_AT63  G-SATA2-Signals:SATA_GP0
SATA_LEDN_AL49  G-SATA2-Signals:SATA_LEDN
SATA_OBSN_L52  G-SATA2-Signals:SATA_OBSN
SATA_OBSP_J52  G-SATA2-Signals:SATA_OBSP
SATA_REFCLKN_L54  G-SATA2-Signals:SATA_REFCLKN
SATA_REFCLKP_J54  G-SATA2-Signals:SATA_REFCLKP
SATA_RXN[0]_H63  G-SATA2-Signals:SATA_RXN[0]
SATA_RXN[1]_G64  G-SATA2-Signals:SATA_RXN[1]
SATA_RXN[2]_C62  G-SATA2-Signals:SATA_RXN[2]
SATA_RXN[3]_C60  G-SATA2-Signals:SATA_RXN[3]
SATA_RXP[0]_H62  G-SATA2-Signals:SATA_RXP[0]
SATA_RXP[1]_G62  G-SATA2-Signals:SATA_RXP[1]
SATA_RXP[2]_E62  G-SATA2-Signals:SATA_RXP[2]
SATA_RXP[3]_D60  G-SATA2-Signals:SATA_RXP[3]
SATA_TXN[0]_D57  G-SATA2-Signals:SATA_TXN[0]
SATA_TXN[1]_E57  G-SATA2-Signals:SATA_TXN[1]
SATA_TXN[2]_A54  G-SATA2-Signals:SATA_TXN[2]
SATA_TXN[3]_B53  G-SATA2-Signals:SATA_TXN[3]
SATA_TXP[0]_B57  G-SATA2-Signals:SATA_TXP[0]
SATA_TXP[1]_E58  G-SATA2-Signals:SATA_TXP[1]
SATA_TXP[2]_C54  G-SATA2-Signals:SATA_TXP[2]
SATA_TXP[3]_D53  G-SATA2-Signals:SATA_TXP[3]
SMB_CLK0_AN62  G-Misc-Signals:SMB_CLK0
SMB_CLK1_AR63  G-Misc-Signals:SMB_CLK1
SMB_CLK2_AR65  G-Misc-Signals:SMB_CLK2
SMB_DATA0_AP62  G-Misc-Signals:SMB_DATA0
SMB_DATA1_AN63  G-Misc-Signals:SMB_DATA1
SMB_DATA2_AN65  G-Misc-Signals:SMB_DATA2
SMBALRT_N0_AL58  G-Misc-Signals:SMBALRT_N0
SPI_CLK_AF46  G-SPI-Signals:SPI_CLK
SPI_CS0_B_Y65  G-SPI-Signals:SPI_CS0_B
SPI_CS1_B_AC58  G-SPI-Signals:SPI_CS1_B
SPI_MISO_AD59  G-SPI-Signals:SPI_MISO
SPI_MOSI_AB62  G-SPI-Signals:SPI_MOSI
SRTCRST_B_AD49  G-RTC-Well-Signals:SRTCRST_B
SUS_STAT_B_AB65  G-PMU-Signals:SUS_STAT_B
SUSPWRDNACK_Y57  G-PMU-Signals:SUSPWRDNACK
SVID_ALERT_B_BC62  G-SVID-Signals:SVID_ALERT_B
SVID_CLK_BB60  G-SVID-Signals:SVID_CLK
SVID_DATA_AW53  G-SVID-Signals:SVID_DATA
TCK_AD65  G-Tap-Port/ITP-Signals:TCK
TDI_AC56  G-Tap-Port/ITP-Signals:TDI
TDO_AF63  G-Tap-Port/ITP-Signals:TDO
THERMTRIP_N_AT56  G-Thermal-Signals:THERMTRIP_N
TMS_AC53  G-Tap-Port/ITP-Signals:TMS
TRST_B_AA46  G-Tap-Port/ITP-Signals:TRST_B
UART1_RXD_AG50  G-Misc-Signals:UART1_RXD
UART1_TXD_AH50  G-Misc-Signals:UART1_TXD
USB_DN[0]_BA46  G-USB-2-Signals:USB_DN[0]
USB_DN[1]_BC45  G-USB-2-Signals:USB_DN[1]
USB_DN[2]_BB42  G-USB-2-Signals:USB_DN[2]
USB_DN[3]_BA41  G-USB-2-Signals:USB_DN[3]
USB_DP[0]_AY46  G-USB-2-Signals:USB_DP[0]
USB_DP[1]_BA45  G-USB-2-Signals:USB_DP[1]
USB_DP[2]_BD42  G-USB-2-Signals:USB_DP[2]
USB_DP[3]_BB41  G-USB-2-Signals:USB_DP[3]
USB_OBSP_AR48  G-USB-2-Signals:USB_OBSP
USB_OC0_B_AD63  G-USB-2-Signals:USB_OC0_B
USB_RCOMPI_AT46  G-USB-2-Signals:USB_RCOMPI
USB_RCOMPO_AT48  G-USB-2-Signals:USB_RCOMPO
USB_REFCLKN_BA50  G-USB-2-Signals:USB_REFCLKN
USB_REFCLKP_BB50  G-USB-2-Signals:USB_REFCLKP
VSSA_USB[0]_AW44  G-USB-2-Signals:VSSA_USB[0]
VSSA_USB[1]_AU44  G-USB-2-Signals:VSSA_USB[1]

## Footprint INTEL-ATOM-FOOTPRINT (pad centres in mm)
smd 0.45 x 0.45: AA47_RSVD_AA47 -16,13; AB63_RSVD_AB63 -0.7,12.3; AC25_RSVD_AC25 -0.7,11.6; AC26_RSVD_AC26 -0.7,10.9; AD53_RSVD_AD53 -0.7,10.2; AG60_RSVD_AG60 -0.7,9.5; AJ34_RSVD_AJ34 -0.7,8.8; AL34_RSVD_AL34 -0.7,8.1; AP20_RSVD_AP20 -0.7,7.4; AP21_RSVD_AP21 -0.7,6.7; AR51_RSVD_AR51 -0.7,6; AR53_RSVD_AR53 -0.7,5.3; AR54_RSVD_AR54 -0.7,4.6; AT34_RSVD_AT34 -0.7,3.9; AT51_RSVD_AT51 -0.7,3.2; AU34_RSVD_AU34 -0.7,2.5; BRTCX1_PAD_AJ65 -0.7,1.8; BRTCX2_PAD_AJ63 -0.7,1.1; BVCCRTC_EXTPAD_AD55 -0.7,0.4; CLK14_IN_AM56 -0.7,-0.3; COREPWROK_AH60 -0.7,-1; CPU_RESET_B_Y63 -0.7,-1.7; CTBTRIGINOUT_AM47 -0.7,-2.4; CTBTRIGOUT_AL47 -0.7,-3.1; CX_PRDY_B_AW56 -0.7,-3.8; CX_PREQ_B_AY53 -0.7,-4.5; DDR3_0_BS[0]_BL12 -0.7,-5.2; DDR3_0_BS[1]_BL10 -0.7,-5.9; DDR3_0_BS[2]_BC08 -0.7,-6.6; DDR3_0_CASB_BH26 -0.7,-7.3; DDR3_0_CK[0]_BA21 -0.7,-8; DDR3_0_CK[1]_BF21 -0.7,-8.7; DDR3_0_CK[2]_BG19 -0.7,-9.4; DDR3_0_CK[3]_BB19 -0.7,-10.1; DDR3_0_CKB[0]_BC21 -0.7,-10.8; DDR3_0_CKB[1]_BG21 -0.7,-11.5; DDR3_0_CKB[2]_BH19 -0.7,-12.2; DDR3_0_CKB[3]_BD19 -0.7,-12.9; DDR3_0_CKE[0]_BG04 -0.7,-13.6; DDR3_0_CKE[1]_BH05 -0.7,-14.3; DDR3_0_CKE[2]_BG05 -0.7,-15; DDR3_0_CKE[3]_BH03 -0.7,-15.7; DDR3_0_CMDPU_BA26 -0.7,-16.4; DDR3_0_CSB[0]_BE25 -0.7,-17.1; DDR3_0_CSB[1]_BB25 -0.7,-17.8; DDR3_0_CSB[2]_BD23 -0.7,-18.5; DDR3_0_CSB[3]_BG26 -0.7,-19.2; DDR3_0_DQ[0]_AM15 -0.7,-19.9; DDR3_0_DQ[1]_AM14 -0.7,-20.6; DDR3_0_DQ[2]_AL08 -0.7,-28.3; DDR3_0_DQ[3]_AM08 -0.7,-36; DDR3_0_DQ[4]_AM17 -0.7,-43.7; DDR3_0_DQ[5]_AL15 -0.7,-51.4; DDR3_0_DQ[6]_AM11 -0.7,-59.1; DDR3_0_DQ[7]_AM09 -0.7,-62.6; DDR3_0_DQ[8]_AR14 -0.7,-63.3; DDR3_0_DQ[9]_AT13 -0.7,-64; DDR3_0_DQ[10]_AT10 -0.7,-21.3; DDR3_0_DQ[11]_AR11 -0.7,-22; DDR3_0_DQ[12]_AR16 -0.7,-22.7; DDR3_0_DQ[13]_AT14 -0.7,-23.4; DDR3_0_DQ[14]_AT08 -0.7,-24.1; DDR3_0_DQ[15]_AR10 -0.7,-24.8; DDR3_0_DQ[16]_AY09 -0.7,-25.5; DDR3_0_DQ[17]_AY11 -0.7,-26.2; DDR3_0_DQ[18]_AY15 -0.7,-26.9; DDR3_0_DQ[19]_AW17 -0.7,-27.6; DDR3_0_DQ[20]_AW08 -0.7,-29; DDR3_0_DQ[21]_AY08 -0.7,-29.7; DDR3_0_DQ[22]_AY14 -0.7,-30.4; DDR3_0_DQ[23]_AW15 -0.7,-31.1; DDR3_0_DQ[24]_AN04 -0.7,-31.8; DDR3_0_DQ[25]_AN02 -0.7,-32.5; DDR3_0_DQ[26]_AU01 -0.7,-33.2; DDR3_0_DQ[27]_AU03 -0.7,-33.9; DDR3_0_DQ[28]_AL02 -0.7,-34.6; DDR3_0_DQ[29]_AL04 -0.7,-35.3; DDR3_0_DQ[30]_AR02 -0.7,-36.7; DDR3_0_DQ[31]_AR04 -0.7,-37.4; DDR3_0_DQ[32]_BA32 -0.7,-38.1; DDR3_0_DQ[33]_BA30 -0.7,-38.8; DDR3_0_DQ[34]_BF30 -0.7,-39.5; DDR3_0_DQ[35]_BD30 -0.7,-40.2; DDR3_0_DQ[36]_BB32 -0.7,-40.9; DDR3_0_DQ[37]_AY30 -0.7,-41.6; DDR3_0_DQ[38]_BG29 -0.7,-42.3; DDR3_0_DQ[39]_BG30 -0.7,-43; DDR3_0_DQ[40]_BL16 -0.7,-44.4; DDR3_0_DQ[41]_BL17 -0.7,-45.1; DDR3_0_DQ[42]_BL21 -0.7,-45.8; DDR3_0_DQ[43]_BN21 -0.7,-46.5; DDR3_0_DQ[44]_BM16 -0.7,-47.2; DDR3_0_DQ[45]_BP16 -0.7,-47.9; DDR3_0_DQ[46]_BP19 -0.7,-48.6; DDR3_0_DQ[47]_BN19 -0.7,-49.3; DDR3_0_DQ[48]_BM25 -0.7,-50; DDR3_0_DQ[49]_BP25 -0.7,-50.7; DDR3_0_DQ[50]_BL28 -0.7,-52.1; DDR3_0_DQ[51]_BN28 -0.7,-52.8; DDR3_0_DQ[52]_BL23 -0.7,-53.5; DDR3_0_DQ[53]_BN23 -0.7,-54.2; DDR3_0_DQ[54]_BM27 -0.7,-54.9; DDR3_0_DQ[55]_BP28 -0.7,-55.6; DDR3_0_DQ[56]_BN32 -0.7,-56.3; DDR3_0_DQ[57]_BK32 -0.7,-57; DDR3_0_DQ[58]_BN35 -0.7,-57.7; DDR3_0_DQ[59]_BM36 -0.7,-58.4; DDR3_0_DQ[60]_BM31 -0.7,-59.8; DDR3_0_DQ[61]_BL32 -0.7,-60.5; DDR3_0_DQ[62]_BK35 -0.7,-61.2; DDR3_0_DQ[63]_BL35 -0.7,-61.9; DDR3_0_DQECC[0]_AY04 -0.7,-64.7; DDR3_0_DQECC[1]_AY02 -0.7,-65.4; DDR3_0_DQECC[2]_BD02 -0.7,-66.1; DDR3_0_DQECC[3]_BD04 -0.7,-66.8; DDR3_0_DQECC[4]_AW03 -0.7,-67.5; DDR3_0_DQECC[5]_AY01 -0.7,-68.2; DDR3_0_DQECC[6]_BC01 -0.7,-68.9; DDR3_0_DQECC[7]_BC03 -0.7,-69.6; DDR3_0_DQPU_AW21 -0.7,-70.3; DDR3_0_DQS[0]_AL11 -0.7,-71; DDR3_0_DQS[1]_AT07 -0.7,-71.7; DDR3_0_DQS[2]_AW12 -0.7,-72.4; DDR3_0_DQS[3]_AP03 -0.7,-73.1; DDR3_0_DQS[4]_BD29 -0.7,-73.8; DDR3_0_DQS[5]_BM18 -0.7,-74.5; DDR3_0_DQS[6]_BN26 -0.7,-75.2; DDR3_0_DQS[7]_BP34 -0.7,-75.9; DDR3_0_DQSB[0]_AL12 -0.7,-76.6; DDR3_0_DQSB[1]_AR07 -0.7,-77.3; DDR3_0_DQSB[2]_AW11 -0.7,-78; DDR3_0_DQSB[3]_AP01 -0.7,-78.7; DDR3_0_DQSB[4]_BC29 -0.7,-79.4; DDR3_0_DQSB[5]_BN17 -0.7,-80.1; DDR3_0_DQSB[6]_BL26 -0.7,-80.8; DDR3_0_DQSB[7]_BM34 -0.7,-81.5; DDR3_0_DQSBECC[0]_BB04 -0.7,-82.2; DDR3_0_DQSECC[0]_BB02 -0.7,-82.9; DDR3_0_DRAM_PWROK_BG17 -0.7,-83.6; DDR3_0_DRAMRSTB_BA25 -0.7,-84.3; DDR3_0_MA[0]_BH11 -0.7,-85; DDR3_0_MA[1]_BL08 -0.7,-85.7; DDR3_0_MA[2]_BG13 -0.7,-90.6; DDR3_0_MA[3]_BG11 -0.7,-91.3; DDR3_0_MA[4]_BD13 -0.7,-92; DDR3_0_MA[5]_BM07 -0.7,-92.7; DDR3_0_MA[6]_BD10 -0.7,-93.4; DDR3_0_MA[7]_BH08 -0.7,-94.1; DDR3_0_MA[8]_BD08 -0.7,-94.8; DDR3_0_MA[9]_BD15 -0.7,-95.5; DDR3_0_MA[10]_BN10 -0.7,-86.4; DDR3_0_MA[11]_BG08 -0.7,-87.1; DDR3_0_MA[12]_BD07 -0.7,-87.8; DDR3_0_MA[13]_BA23 -0.7,-88.5; DDR3_0_MA[14]_BC11 -0.7,-89.2; DDR3_0_MA[15]_BF15 -0.7,-89.9; DDR3_0_MON1N_BP06 -0.7,-96.2; DDR3_0_MON1P_BP08 -0.7,-96.9; DDR3_0_MON2N_BK03 -0.7,-97.6; DDR3_0_MON2P_BK05 -0.7,-98.3; DDR3_0_ODT[0]_BD26 -0.7,-99; DDR3_0_ODT[1]_BB26 -0.7,-99.7; DDR3_0_ODT[2]_BH25 -0.7,-100.4; DDR3_0_ODT[3]_BG25 -0.7,-101.1; DDR3_0_ODTPU_AW20 -0.7,-101.8; DDR3_0_RASB_BG23 -0.7,-102.5; DDR3_0_REFN_BM13 -0.7,-103.2; DDR3_0_REFP_BN12 -0.7,-103.9; DDR3_0_VCCA_PWROK_BE17 -0.7,-104.6; DDR3_0_VREF_AY29 -0.7,-105.3; DDR3_0_WEB_BC23 -0.7,-106; DDR3_1_BS[0]_N18 -0.7,-106.7; DDR3_1_BS[1]_H18 -0.7,-107.4; DDR3_1_BS[2]_H25 -0.7,-108.1; DDR3_1_CASB_H04 -0.7,-108.8; DDR3_1_CK[0]_C09 -0.7,-109.5; DDR3_1_CK[1]_G09 -0.7,-110.2; DDR3_1_CK[2]_H10 -0.7,-110.9; DDR3_1_CK[3]_J13 -0.7,-111.6; DDR3_1_CKB[0]_D08 -0.7,-112.3; DDR3_1_CKB[1]_H09 -0.7,-113; DDR3_1_CKB[2]_G10 -0.7,-113.7; DDR3_1_CKB[3]_L13 -0.7,-114.4; DDR3_1_CKE[0]_N26 -0.7,-115.1; DDR3_1_CKE[1]_N25 -0.7,-115.8; DDR3_1_CKE[2]_L25 -0.7,-116.5; DDR3_1_CKE[3]_L26 -0.7,-117.2; DDR3_1_CMDPU_T25 -0.7,-117.9; DDR3_1_CSB[0]_K03 -0.7,-118.6; DDR3_1_CSB[1]_N04 -0.7,-119.3; DDR3_1_CSB[2]_L07 -0.7,-120; DDR3_1_CSB[3]_K04 -0.7,-120.7; DDR3_1_DQ[0]_B39 -0.7,-121.4; DDR3_1_DQ[1]_D39 -0.7,-122.1; DDR3_1_DQ[2]_B35 -0.7,-129.8; DDR3_1_DQ[3]_D35 -0.7,-137.5; DDR3_1_DQ[4]_A39 -0.7,-145.2; DDR3_1_DQ[5]_C40 -0.7,-152.9; DDR3_1_DQ[6]_A36 -0.7,-160.6; DDR3_1_DQ[7]_C36 -0.7,-164.1; DDR3_1_DQ[8]_B32 -0.7,-164.8; DDR3_1_DQ[9]_C31 -0.7,-165.5; DDR3_1_DQ[10]_A27 -0.7,-122.8; DDR3_1_DQ[11]_C27 -0.7,-123.5; DDR3_1_DQ[12]_E32 -0.7,-124.2; DDR3_1_DQ[13]_D32 -0.7,-124.9; DDR3_1_DQ[14]_D28 -0.7,-125.6; DDR3_1_DQ[15]_B28 -0.7,-126.3; DDR3_1_DQ[16]_D23 -0.7,-127; DDR3_1_DQ[17]_B23 -0.7,-127.7; DDR3_1_DQ[18]_D19 -0.7,-128.4; DDR3_1_DQ[19]_B19 -0.7,-129.1; DDR3_1_DQ[20]_C24 -0.7,-130.5; DDR3_1_DQ[21]_D24 -0.7,-131.2; DDR3_1_DQ[22]_B21 -0.7,-131.9; DDR3_1_DQ[23]_D21 -0.7,-132.6; DDR3_1_DQ[24]_H30 -0.7,-133.3; DDR3_1_DQ[25]_H29 -0.7,-134; DDR3_1_DQ[26]_N32 -0.7,-134.7; DDR3_1_DQ[27]_L32 -0.7,-135.4; DDR3_1_DQ[28]_H32 -0.7,-136.1; DDR3_1_DQ[29]_J30 -0.7,-136.8; DDR3_1_DQ[30]_M30 -0.7,-138.2; DDR3_1_DQ[31]_P30 -0.7,-138.9; DDR3_1_DQ[32]_R15 -0.7,-139.6; DDR3_1_DQ[33]_R14 -0.7,-140.3; DDR3_1_DQ[34]_R09 -0.7,-141; DDR3_1_DQ[35]_R11 -0.7,-141.7; DDR3_1_DQ[36]_T17 -0.7,-142.4; DDR3_1_DQ[37]_U15 -0.7,-143.1; DDR3_1_DQ[38]_R08 -0.7,-143.8; DDR3_1_DQ[39]_U08 -0.7,-144.5; DDR3_1_DQ[40]_U04 -0.7,-145.9; DDR3_1_DQ[41]_U02 -0.7,-146.6; DDR3_1_DQ[42]_AB02 -0.7,-147.3; DDR3_1_DQ[43]_AB04 -0.7,-148; DDR3_1_DQ[44]_T03 -0.7,-148.7; DDR3_1_DQ[45]_T01 -0.7,-149.4; DDR3_1_DQ[46]_Y04 -0.7,-150.1; DDR3_1_DQ[47]_Y02 -0.7,-150.8; DDR3_1_DQ[48]_W14 -0.7,-151.5; DDR3_1_DQ[49]_W13 -0.7,-152.2; DDR3_1_DQ[50]_W10 -0.7,-153.6; DDR3_1_DQ[51]_Y11 -0.7,-154.3; DDR3_1_DQ[52]_Y16 -0.7,-155; DDR3_1_DQ[53]_Y14 -0.7,-155.7; DDR3_1_DQ[54]_W08 -0.7,-156.4; DDR3_1_DQ[55]_Y10 -0.7,-157.1; DDR3_1_DQ[56]_AC08 -0.7,-157.8; DDR3_1_DQ[57]_AD08 -0.7,-158.5; DDR3_1_DQ[58]_AD15 -0.7,-159.2; DDR3_1_DQ[59]_AC17 -0.7,-159.9; DDR3_1_DQ[60]_AC11 -0.7,-161.3; DDR3_1_DQ[61]_AC09 -0.7,-162; DDR3_1_DQ[62]_AC14 -0.7,-162.7; DDR3_1_DQ[63]_AC15 -0.7,-163.4; DDR3_1_DQECC[0]_D15 -0.7,-166.2; DDR3_1_DQECC[1]_C15 -0.7,-166.9; DDR3_1_DQECC[2]_D12 -0.7,-167.6; DDR3_1_DQECC[3]_E12 -0.7,-168.3; DDR3_1_DQECC[4]_D17 -0.7,-169; DDR3_1_DQECC[5]_B17 -0.7,-169.7; DDR3_1_DQECC[6]_C13 -0.7,-170.4; DDR3_1_DQECC[7]_B12 -0.7,-171.1; DDR3_1_DQPU_T26 -0.7,-171.8; DDR3_1_DQS[0]_D37 -0.7,-172.5; DDR3_1_DQS[1]_D30 -0.7,-173.2; DDR3_1_DQS[2]_A21 -0.7,-173.9; DDR3_1_DQS[3]_M29 -0.7,-174.6; DDR3_1_DQS[4]_U11 -0.7,-175.3; DDR3_1_DQS[5]_W01 -0.7,-176; DDR3_1_DQS[6]_Y07 -0.7,-176.7; DDR3_1_DQS[7]_AD12 -0.7,-177.4; DDR3_1_DQSB[0]_B37 -0.7,-178.1; DDR3_1_DQSB[1]_B30 -0.7,-178.8; DDR3_1_DQSB[2]_C22 -0.7,-179.5; DDR3_1_DQSB[3]_L29 -0.7,-180.2; DDR3_1_DQSB[4]_U12 -0.7,-180.9; DDR3_1_DQSB[5]_W03 -0.7,-181.6; DDR3_1_DQSB[6]_W07 -0.7,-182.3; DDR3_1_DQSB[7]_AD11 -0.7,-183; DDR3_1_DQSBECC[0]_D14 -0.7,-183.7; DDR3_1_DQSECC[0]_B14 -0.7,-184.4; DDR3_1_DRAM_PWROK_L17 -0.7,-185.1; DDR3_1_DRAMRSTB_N11 -0.7,-185.8; DDR3_1_MA[0]_H17 -0.7,-186.5; DDR3_1_MA[1]_G17 -0.7,-187.2; DDR3_1_MA[2]_G18 -0.7,-192.1; DDR3_1_MA[3]_P21 -0.7,-192.8; DDR3_1_MA[4]_M21 -0.7,-193.5; DDR3_1_MA[5]_H22 -0.7,-194.2; DDR3_1_MA[6]_J21 -0.7,-194.9; DDR3_1_MA[7]_J22 -0.7,-195.6; DDR3_1_MA[8]_H21 -0.7,-196.3; DDR3_1_MA[9]_M22 -0.7,-197; DDR3_1_MA[10]_L18 -0.7,-187.9; DDR3_1_MA[11]_P22 -0.7,-188.6; DDR3_1_MA[12]_G25 -0.7,-189.3; DDR3_1_MA[13]_G03 -0.7,-190; DDR3_1_MA[14]_G26 -0.7,-190.7; DDR3_1_MA[15]_H26 -0.7,-191.4; DDR3_1_MON1N_C05 -0.7,-197.7; DDR3_1_MON1P_E05 -0.7,-198.4; DDR3_1_MON2N_A06 -0.7,-199.1; DDR3_1_MON2P_A08 -0.7,-199.8; DDR3_1_ODT[0]_L02 -0.7,-200.5; DDR3_1_ODT[1]_N02 -0.7,-201.2; DDR3_1_ODT[2]_N08 -0.7,-201.9; DDR3_1_ODT[3]_L04 -0.7,-202.6; DDR3_1_ODTPU_T32 -0.7,-203.3; DDR3_1_RASB_L08 -0.7,-204; DDR3_1_REFN_L14 -0.7,-204.7; DDR3_1_REFP_J14 -0.7,-205.4; DDR3_1_VCCA_PWROK_N17 -0.7,-206.1; DDR3_1_VREF_R29 -0.7,-206.8; DDR3_1_WEB_N07 -0.7,-207.5; DFX_PORT[0]_BC64 -0.7,-209.6; DFX_PORT[1]_AY58 -0.7,-210.3; DFX_PORT[2]_AW58 -0.7,-215.2; DFX_PORT[3]_AR57 -0.7,-215.9; DFX_PORT[4]_AT54 -0.7,-216.6; DFX_PORT[5]_AY56 -0.7,-217.3; DFX_PORT[6]_AY63 -0.7,-218; DFX_PORT[7]_AW62 -0.7,-218.7; DFX_PORT[8]_AY59 -0.7,-219.4; DFX_PORT[9]_AT60 -0.7,-220.1; DFX_PORT[10]_BB63 -0.7,-211; DFX_PORT[11]_AT59 -0.7,-211.7; DFX_PORT[12]_AW64 -0.7,-212.4; DFX_PORT[13]_AW66 -0.7,-213.1; DFX_PORT[14]_AY65 -0.7,-213.8; DFX_PORT[15]_AR59 -0.7,-214.5; DFX_PORT_CLK0_AV63 -0.7,-208.2; DFX_PORT_CLK1_AV65 -0.7,-208.9; ERROR0_B_AL65 -0.7,-220.8; ERROR1_B_AL62 -0.7,-221.5; ERROR2_B_AL63 -0.7,-222.2; FLEX_CLK_SE0_AH59 -0.7,-222.9; FLEX_CLK_SE1_AG56 -0.7,-223.6; GBE_EE_CS_N_R59 -0.7,-224.3; GBE_EE_DI_W51 -0.7,-225; GBE_EE_DO_W60 -0.7,-225.7; GBE_EE_SK_T50 -0.7,-226.4; GBE_LED0_P46 -0.7,-227.1; GBE_LED1_W50 -0.7,-227.8; GBE_LED2_P48 -0.7,-228.5; GBE_LED3_R58 -0.7,-229.2; GBE_MDIO0_I2C_CLK_W56 -0.7,-229.9; GBE_MDIO0_I2C_DATA_W59 -0.7,-230.6; GBE_MDIO1_I2C_CLK_Y54 -0.7,-231.3; GBE_MDIO1_I2C_DATA_Y53 -0.7,-232; GBE_OBSN_H50 -0.7,-232.7; GBE_OBSP_G50 -0.7,-233.4; GBE_REFCLKN_D50 -0.7,-234.1; GBE_REFCLKP_B50 -0.7,-234.8; GBE_RXN[0]_K48 -0.7,-235.5; GBE_RXN[1]_L46 -0.7,-236.2; GBE_RXN[2]_L44 -0.7,-236.9; GBE_RXN[3]_H42 -0.7,-237.6; GBE_RXP[0]_H48 -0.7,-238.3; GBE_RXP[1]_J46 -0.7,-239; GBE_RXP[2]_J44 -0.7,-239.7; GBE_RXP[3]_G42 -0.7,-240.4; GBE_SDP0_0_T58 -0.7,-241.1; GBE_SDP0_1_T48 -0.7,-241.8; GBE_SMBALRT_N_T55 -0.7,-242.5; GBE_SMBCLK_P50 -0.7,-243.2; GBE_SMBD_T59 -0.7,-243.9; GBE_TXN[0]_B48 -0.7,-244.6; GBE_TXN[1]_B46 -0.7,-245.3; GBE_TXN[2]_B44 -0.7,-246; GBE_TXN[3]_A42 -0.7,-246.7; GBE_TXP[0]_D48 -0.7,-247.4; GBE_TXP[1]_D46 -0.7,-248.1; GBE_TXP[2]_D44 -0.7,-248.8; GBE_TXP[3]_C42 -0.7,-249.5; GPIO_SUS0_V66 -0.7,-250.2; GPIO_SUS1_W54 -0.7,-250.9; GPIO_SUS2_T53 -0.7,-251.6; HPLL_REFN_J37 -0.7,-252.3; HPLL_REFP_L37 -0.7,-253; IERR_B_AM52 -0.7,-253.7; ILB_SERIRQ_AT50 -0.7,-254.4; J38_RSVD_J38 -0.7,-255.1; L38_RSVD_L38 -0.7,-255.8; LPC_AD0_AG54 -0.7,-256.5; LPC_AD1_AM53 -0.7,-257.2; LPC_AD2_AL53 -0.7,-257.9; LPC_AD3_AG59 -0.7,-258.6; LPC_CLKOUT0_AG51 -0.7,-259.3; LPC_CLKOUT1_AM49 -0.7,-260; LPC_CLKRUNB_AH48 -0.7,-260.7; LPC_FRAMEB_AH56 -0.7,-261.4; MCERR_B_AL52 -0.7,-262.1; MEMHOT_B_AL46 -0.7,-262.8; NCSI_ARB_OUT_Y59 -0.7,-263.5; NCSI_RXD1_V63 -0.7,-264.2; NMI_AL56 -0.7,-264.9; P38_RSVD_P38 -0.7,-265.6; PCIE_OBSN_BA38 -0.7,-266.3; PCIE_OBSP_BC38 -0.7,-267; PCIE_REFCLKN_BD49 -0.7,-267.7; PCIE_REFCLKP_BB49 -0.7,-268.4; PCIE_RXN[0]_BE64 -0.7,-269.1; PCIE_RXN[1]_BH64 -0.7,-269.8; PCIE_RXN[2]_BK62 -0.7,-274.7; PCIE_RXN[3]_BH58 -0.7,-275.4; PCIE_RXN[4]_BH57 -0.7,-276.1; PCIE_RXN[5]_BF54 -0.7,-276.8; PCIE_RXN[6]_BG53 -0.7,-277.5; PCIE_RXN[7]_BG50 -0.7,-278.2; PCIE_RXN[8]_BH49 -0.7,-278.9; PCIE_RXN[9]_BF46 -0.7,-279.6; PCIE_RXN[10]_BG45 -0.7,-270.5; PCIE_RXN[11]_BH42 -0.7,-271.2; PCIE_RXN[12]_BG41 -0.7,-271.9; PCIE_RXN[13]_BG38 -0.7,-272.6; PCIE_RXN[14]_BF37 -0.7,-273.3; PCIE_RXN[15]_BG34 -0.7,-274; PCIE_RXP[0]_BE63 -0.7,-280.3; PCIE_RXP[1]_BJ63 -0.7,-281; PCIE_RXP[2]_BJ62 -0.7,-285.9; PCIE_RXP[3]_BG58 -0.7,-286.6; PCIE_RXP[4]_BG57 -0.7,-287.3; PCIE_RXP[5]_BD54 -0.7,-288; PCIE_RXP[6]_BF53 -0.7,-288.7; PCIE_RXP[7]_BE50 -0.7,-289.4; PCIE_RXP[8]_BG49 -0.7,-290.1; PCIE_RXP[9]_BD46 -0.7,-290.8; PCIE_RXP[10]_BF45 -0.7,-281.7; PCIE_RXP[11]_BG42 -0.7,-282.4; PCIE_RXP[12]_BE41 -0.7,-283.1; PCIE_RXP[13]_BF38 -0.7,-283.8; PCIE_RXP[14]_BD37 -0.7,-284.5; PCIE_RXP[15]_BE34 -0.7,-285.2; PCIE_TXN[0]_BL61 -0.7,-291.5; PCIE_TXN[1]_BM58 -0.7,-292.2; PCIE_TXN[2]_BN57 -0.7,-297.1; PCIE_TXN[3]_BN55 -0.7,-297.8; PCIE_TXN[4]_BK54 -0.7,-298.5; PCIE_TXN[5]_BL53 -0.7,-299.2; PCIE_TXN[6]_BM52 -0.7,-299.9; PCIE_TXN[7]_BL50 -0.7,-300.6; PCIE_TXN[8]_BM49 -0.7,-301.3; PCIE_TXN[9]_BL48 -0.7,-302; PCIE_TXN[10]_BL46 -0.7,-292.9; PCIE_TXN[11]_BL44 -0.7,-293.6; PCIE_TXN[12]_BM43 -0.7,-294.3; PCIE_TXN[13]_BN41 -0.7,-295; PCIE_TXN[14]_BK40 -0.7,-295.7; PCIE_TXN[15]_BL39 -0.7,-296.4; PCIE_TXP[0]_BK60 -0.7,-302.7; PCIE_TXP[1]_BL59 -0.7,-303.4; PCIE_TXP[2]_BL57 -0.7,-308.3; PCIE_TXP[3]_BL55 -0.7,-309; PCIE_TXP[4]_BM54 -0.7,-309.7; PCIE_TXP[5]_BN53 -0.7,-310.4; PCIE_TXP[6]_BL52 -0.7,-311.1; PCIE_TXP[7]_BN50 -0.7,-311.8; PCIE_TXP[8]_BP49 -0.7,-312.5; PCIE_TXP[9]_BN48 -0.7,-313.2; PCIE_TXP[10]_BN46 -0.7,-304.1; PCIE_TXP[11]_BN44 -0.7,-304.8; PCIE_TXP[12]_BP43 -0.7,-305.5; PCIE_TXP[13]_BL41 -0.7,-306.2; PCIE_TXP[14]_BM40 -0.7,-306.9; PCIE_TXP[15]_BN39 -0.7,-307.6; PMU_PLTRST_B_AE62 -0.7,-313.9; PMU_PWRBTN_B_AC49 -0.7,-314.6; PMU_RESETBUTTON_B_AM58 -0.7,-315.3; PMU_SLP_DDRVTT_B_AC52 -0.7,-316; PMU_SLP_LAN_B_Y50 -0.7,-316.7; PMU_SLP_S3_B_AF65 -0.7,-317.4; PMU_SLP_S45_B_V64 -0.7,-318.1; PMU_SUSCLK_AD58 -0.7,-318.8; PMU_WAKE_B_AD66 -0.7,-319.5; PROCHOT_B_BB59 -0.7,-320.2; R37_RSVD_R37 -0.7,-320.9; RCOMP_CORE_LVT_AG46 -0.7,-321.6; RSMRST_B_AC47 -0.7,-322.3; RTEST_B_AD50 -0.7,-323; SATA3_GP0_AH51 -0.7,-339.1; SATA3_LEDN_AH54 -0.7,-339.8; SATA3_OBSN_R53 -0.7,-340.5; SATA3_OBSP_R55 -0.7,-341.2; SATA3_REFCLKN_L59 -0.7,-341.9; SATA3_REFCLKP_L57 -0.7,-342.6; SATA3_RXN[0]_M64 -0.7,-343.3; SATA3_RXN[1]_L65 -0.7,-344; SATA3_RXP[0]_M62 -0.7,-344.7; SATA3_RXP[1]_L63 -0.7,-345.4; SATA3_TXN[0]_T64 -0.7,-346.1; SATA3_TXN[1]_R65 -0.7,-346.8; SATA3_TXP[0]_R66 -0.7,-347.5; SATA3_TXP[1]_R63 -0.7,-348.2; SATA_GP0_AT63 -0.7,-323.7; SATA_LEDN_AL49 -0.7,-324.4; SATA_OBSN_L52 -0.7,-325.1; SATA_OBSP_J52 -0.7,-325.8; SATA_REFCLKN_L54 -0.7,-326.5; SATA_REFCLKP_J54 -0.7,-327.2; SATA_RXN[0]_H63 -0.7,-327.9; SATA_RXN[1]_G64 -0.7,-328.6; SATA_RXN[2]_C62 -0.7,-329.3; SATA_RXN[3]_C60 -0.7,-330; SATA_RXP[0]_H62 -0.7,-330.7; SATA_RXP[1]_G62 -0.7,-331.4; SATA_RXP[2]_E62 -0.7,-332.1; SATA_RXP[3]_D60 -0.7,-332.8; SATA_TXN[0]_D57 -0.7,-333.5; SATA_TXN[1]_E57 -0.7,-334.2; SATA_TXN[2]_A54 -0.7,-334.9; SATA_TXN[3]_B53 -0.7,-335.6; SATA_TXP[0]_B57 -0.7,-336.3; SATA_TXP[1]_E58 -0.7,-337; SATA_TXP[2]_C54 -0.7,-337.7; SATA_TXP[3]_D53 -0.7,-338.4; SMB_CLK0_AN62 -0.7,-348.9; SMB_CLK1_AR63 -0.7,-349.6; SMB_CLK2_AR65 -0.7,-350.3; SMB_DATA0_AP62 -0.7,-351; SMB_DATA1_AN63 -0.7,-351.7; SMB_DATA2_AN65 -0.7,-352.4; SMBALRT_N0_AL58 -0.7,-353.1; SPI_CLK_AF46 -0.7,-353.8; SPI_CS0_B_Y65 -0.7,-354.5; SPI_CS1_B_AC58 -0.7,-355.2; SPI_MISO_AD59 -0.7,-355.9; SPI_MOSI_AB62 -0.7,-356.6; SRTCRST_B_AD49 -0.7,-357.3; SUS_STAT_B_AB65 -0.7,-358; SUSPWRDNACK_Y57 -0.7,-358.7; SVID_ALERT_B_BC62 -0.7,-359.4; SVID_CLK_BB60 -0.7,-360.1; SVID_DATA_AW53 -0.7,-360.8; TCK_AD65 -0.7,-361.5; TDI_AC56 -0.7,-362.2; TDO_AF63 -0.7,-362.9; THERMTRIP_N_AT56 -0.7,-363.6; TMS_AC53 -0.7,-364.3; TRST_B_AA46 -0.7,-365; UART1_RXD_AG50 -0.7,-365.7; UART1_TXD_AH50 -0.7,-366.4; USB_DN[0]_BA46 -0.7,-367.1; USB_DN[1]_BC45 -0.7,-367.8; USB_DN[2]_BB42 -0.7,-368.5; USB_DN[3]_BA41 -0.7,-369.2; USB_DP[0]_AY46 -0.7,-369.9; USB_DP[1]_BA45 -0.7,-370.6; USB_DP[2]_BD42 -0.7,-371.3; USB_DP[3]_BB41 -0.7,-372; USB_OBSP_AR48 -0.7,-372.7; USB_OC0_B_AD63 -0.7,-373.4; USB_RCOMPI_AT46 -0.7,-374.1; USB_RCOMPO_AT48 -0.7,-374.8; USB_REFCLKN_BA50 -0.7,-375.5; USB_REFCLKP_BB50 -0.7,-376.2; VCCA_GBE_1P0_T37 -0.7,-376.9; VCCA_GBE_1P0_V38 -0.7,-378.3; VCCA_GBE_1P0_W38 -0.7,-377.6; VCCA_PCIE_1P0_AT36 -0.7,-379; VCCA_PCIE_1P0_AT38 -0.7,-379.7; VCCA_PCIE_1P0_AU36 -0.7,-382.5; VCCA_PCIE_1P0_AU38 -0.7,-383.2; VCCA_PCIE_1P0_AU39 -0.7,-383.9; VCCA_PCIE_1P0_AW36 -0.7,-380.4; VCCA_PCIE_1P0_AW38 -0.7,-381.1; VCCA_PCIE_1P0_AW39 -0.7,-381.8; VCCA_SATA3_1P0_L42 -0.7,-387.4; VCCA_SATA3_1P0_N42 -0.7,-388.1; VCCA_SATA3_1P0_P42 -0.7,-388.8; VCCA_SATA_1P0_K41 -0.7,-384.6; VCCA_SATA_1P0_L41 -0.7,-385.3; VCCA_SATA_1P0_N41 -0.7,-386; VCCA_SATA_1P0_P41 -0.7,-386.7; VCCACKDDR_0_1P0_AT32 -0.7,-389.5; VCCACKDDR_0_1P0_AU32 -0.7,-390.2; VCCACKDDR_1_1P0_V28 -0.7,-391.6; VCCACKDDR_1_1P0_W28 -0.7,-390.9; VCCADDR_0_1P0_AT21 -0.7,-392.3; VCCADDR_0_1P0_AT23 -0.7,-393; VCCADDR_0_1P0_AT25 -0.7,-393.7; VCCADDR_0_1P0_AT26 -0.7,-394.4; VCCADDR_0_1P0_AT28 -0.7,-395.1; VCCADDR_1_1P0_AA21 -0.7,-398.6; VCCADDR_1_1P0_W21 -0.7,-395.8; VCCADDR_1_1P0_W23 -0.7,-396.5; VCCADDR_1_1P0_W25 -0.7,-397.2; VCCADDR_1_1P0_W26 -0.7,-397.9; VCCADLLDDR_0_1P0_AU21 -0.7,-399.3; VCCADLLDDR_0_1P0_AU23 -0.7,-400; VCCADLLDDR_0_1P0_AU25 -0.7,-400.7; VCCADLLDDR_0_1P0_AU26 -0.7,-401.4; VCCADLLDDR_0_1P0_AU28 -0.7,-402.1; VCCADLLDDR_1_1P0_V20 -0.7,-402.8; VCCADLLDDR_1_1P0_V21 -0.7,-403.5; VCCADLLDDR_1_1P0_V23 -0.7,-404.2; VCCADLLDDR_1_1P0_V25 -0.7,-404.9; VCCADLLDDR_1_1P0_V26 -0.7,-405.6; VCCAPLL_GBE_1P0_V41 -0.7,-407; VCCAPLL_GBE_1P0_W41 -0.7,-406.3; VCCAPLL_PCIE_1P0_AY37 -0.7,-407.7; VCCAPLL_PCIE_1P0_BA37 -0.7,-408.4; VCCAPLL_SATA3_1P0_R44 -0.7,-410.5; VCCAPLL_SATA3_1P0_T44 -0.7,-411.2; VCCAPLL_SATA_1P0_R46 -0.7,-409.1; VCCAPLL_SATA_1P0_T45 -0.7,-409.8; VCCAREF_GBE_HVGEN_T39 -0.7,-411.9; VCCAREF_GBE_HVGEN_V39 -0.7,-412.6; VCCAREF_PCIE_HVGEN_AT39 -0.7,-413.3; VCCAREF_SATA_HVGEN_V46 -0.7,-414; VCCAREF_SATA_HVGEN_W44 -0.7,-414.7; VCCAREF_SATA_HVGEN_W46 -0.7,-415.4; VCCAUSB_1P0_AT42 -0.7,-416.1; VCCCLKDDR_0_1P5_AT29 -0.7,-416.8; VCCCLKDDR_0_1P5_AU29 -0.7,-417.5; VCCCLKDDR_1_1P5_V29 -0.7,-418.9; VCCCLKDDR_1_1P5_W29 -0.7,-418.2; VCCCORE6VIDSI0GT_1P03_AL32 -0.7,-419.6; VCCCORE7VIDSI0GT_1P03_AJ29 -0.7,-420.3; VCCCPUVIDSI0_1P03_AD21 -0.7,-424.5; VCCCPUVIDSI0_1P03_AD23 -0.7,-425.9; VCCCPUVIDSI0_1P03_AD25 -0.7,-427.3; VCCCPUVIDSI0_1P03_AD26 -0.7,-428.7; VCCCPUVIDSI0_1P03_AE01 -0.7,-421; VCCCPUVIDSI0_1P03_AE05 -0.7,-421.7; VCCCPUVIDSI0_1P03_AF04 -0.7,-422.4; VCCCPUVIDSI0_1P03_AF20 -0.7,-423.1; VCCCPUVIDSI0_1P03_AF21 -0.7,-423.8; VCCCPUVIDSI0_1P03_AF23 -0.7,-425.2; VCCCPUVIDSI0_1P03_AF25 -0.7,-426.6; VCCCPUVIDSI0_1P03_AF26 -0.7,-428; VCCCPUVIDSI0_1P03_AG07 -0.7,-429.4; VCCCPUVIDSI0_1P03_AG08 -0.7,-430.1; VCCCPUVIDSI0_1P03_AG11 -0.7,-432.2; VCCCPUVIDSI0_1P03_AG13 -0.7,-433.6; VCCCPUVIDSI0_1P03_AG14 -0.7,-435; VCCCPUVIDSI0_1P03_AG17 -0.7,-436.4; VCCCPUVIDSI0_1P03_AG19 -0.7,-437.8; VCCCPUVIDSI0_1P03_AG21 -0.7,-438.5; VCCCPUVIDSI0_1P03_AH01 -0.7,-446.9; VCCCPUVIDSI0_1P03_AH03 -0.7,-447.6; VCCCPUVIDSI0_1P03_AH04 -0.7,-448.3; VCCCPUVIDSI0_1P03_AH07 -0.7,-449; VCCCPUVIDSI0_1P03_AH08 -0.7,-449.7; VCCCPUVIDSI0_1P03_AH10 -0.7,-430.8; VCCCPUVIDSI0_1P03_AH13 -0.7,-432.9; VCCCPUVIDSI0_1P03_AH14 -0.7,-434.3; VCCCPUVIDSI0_1P03_AH16 -0.7,-435.7; VCCCPUVIDSI0_1P03_AH19 -0.7,-437.1; VCCCPUVIDSI0_1P03_AJ02 -0.7,-439.2; VCCCPUVIDSI0_1P03_AJ04 -0.7,-439.9; VCCCPUVIDSI0_1P03_AJ05 -0.7,-441.3; VCCCPUVIDSI0_1P03_AJ21 -0.7,-442.7; VCCCPUVIDSI0_1P03_AJ23 -0.7,-444.1; VCCCPUVIDSI0_1P03_AJ25 -0.7,-445.5; VCCCPUVIDSI0_1P03_AJ26 -0.7,-446.2; VCCCPUVIDSI0_1P03_AK20 -0.7,-431.5; VCCCPUVIDSI0_1P03_AL21 -0.7,-440.6; VCCCPUVIDSI0_1P03_AL23 -0.7,-442; VCCCPUVIDSI0_1P03_AL25 -0.7,-443.4; VCCCPUVIDSI0_1P03_AL26 -0.7,-444.8; VCCCPUVIDSI0_1P03_SENSE_AE03 -0.7,-450.4; VCCDDR_0_1P5_AY19 -0.7,-451.1; VCCDDR_0_1P5_AY21 -0.7,-451.8; VCCDDR_0_1P5_AY23 -0.7,-452.5; VCCDDR_0_1P5_BC07 -0.7,-456.7; VCCDDR_0_1P5_BC10 -0.7,-458.1; VCCDDR_0_1P5_BC13 -0.7,-458.8; VCCDDR_0_1P5_BC15 -0.7,-460.2; VCCDDR_0_1P5_BD17 -0.7,-453.2; VCCDDR_0_1P5_BD21 -0.7,-453.9; VCCDDR_0_1P5_BD25 -0.7,-455.3; VCCDDR_0_1P5_BE19 -0.7,-460.9; VCCDDR_0_1P5_BE26 -0.7,-461.6; VCCDDR_0_1P5_BF13 -0.7,-454.6; VCCDDR_0_1P5_BF23 -0.7,-456; VCCDDR_0_1P5_BG09 -0.7,-457.4; VCCDDR_0_1P5_BG15 -0.7,-459.5; VCCDDR_0_1P5_BH17 -0.7,-463; VCCDDR_0_1P5_BJ04 -0.7,-463.7; VCCDDR_0_1P5_BK06 -0.7,-465.8; VCCDDR_0_1P5_BK09 -0.7,-466.5; VCCDDR_0_1P5_BK12 -0.7,-467.2; VCCDDR_0_1P5_BK13 -0.7,-462.3; VCCDDR_0_1P5_BL07 -0.7,-465.1; VCCDDR_0_1P5_BM09 -0.7,-464.4; VCCDDR_1_1P5_E07 -0.7,-467.9; VCCDDR_1_1P5_E09 -0.7,-468.6; VCCDDR_1_1P5_G05 -0.7,-474.2; VCCDDR_1_1P5_G07 -0.7,-474.9; VCCDDR_1_1P5_H13 -0.7,-469.3; VCCDDR_1_1P5_H14 -0.7,-470; VCCDDR_1_1P5_J05 -0.7,-477; VCCDDR_1_1P5_K10 -0.7,-470.7; VCCDDR_1_1P5_K17 -0.7,-471.4; VCCDDR_1_1P5_K18 -0.7,-472.1; VCCDDR_1_1P5_K25 -0.7,-472.8; VCCDDR_1_1P5_K26 -0.7,-473.5; VCCDDR_1_1P5_L05 -0.7,-475.6; VCCDDR_1_1P5_L21 -0.7,-476.3; VCCDDR_1_1P5_L22 -0.7,-477.7; VCCDDR_1_1P5_M03 -0.7,-481.2; VCCDDR_1_1P5_N13 -0.7,-478.4; VCCDDR_1_1P5_N14 -0.7,-479.1; VCCDDR_1_1P5_P17 -0.7,-481.9; VCCDDR_1_1P5_P18 -0.7,-482.6; VCCDDR_1_1P5_P25 -0.7,-483.3; VCCDDR_1_1P5_P26 -0.7,-484; VCCDDR_1_1P5_R21 -0.7,-479.8; VCCDDR_1_1P5_R22 -0.7,-480.5; VCCDIGXXXSI0_1P03_AD38 -0.7,-485.4; VCCDIGXXXSI0_1P03_AF38 -0.7,-484.7; VCCDIGXXXSI0_1P03_AG38 -0.7,-486.1; VCCDIGXXXSI0_1P03_AJ38 -0.7,-486.8; VCCDIGXXXSUS_1P03_AA38 -0.7,-487.5; VCCDIGXXXSUS_1P03_AA39 -0.7,-488.2; VCCDIGXXXSUS_1P03_AA41 -0.7,-488.9; VCCDIGXXXSUS_1P03_AC38 -0.7,-489.6; VCCDIGXXXSUS_1P03_AC39 -0.7,-490.3; VCCDIGXXXSUS_1P03_AC41 -0.7,-491; VCCDUSB_1P0_AU41 -0.7,-492.4; VCCDUSB_1P0_AW41 -0.7,-491.7; VCCDUSBSUS_1P0_AT41 -0.7,-493.1; VCCFHVCPUSI0_MOD0_1P03_AD28 -0.7,-493.8; VCCFHVCPUSI0_MOD1_1P03_AL28 -0.7,-494.5; VCCFHVCPUSI0_MOD2_1P03_AD29 -0.7,-495.2; VCCFHVCPUSI0_MOD3_1P03_AL31 -0.7,-495.9; VCCFHVSOCSI0_1P03_AC42 -0.7,-496.6; VCCFHVSOCSI0_1P03_AC44 -0.7,-497.3; VCCPADXXXSI0_1P8_AJ41 -0.7,-498.7; VCCPADXXXSI0_1P8_AL41 -0.7,-498; VCCPADXXXSI0_3P3_AJ42 -0.7,-499.4; VCCPADXXXSUS_1P8_AF41 -0.7,-500.1; VCCPADXXXSUS_1P8_AF42 -0.7,-500.8; VCCPADXXXSUS_3P3_AD42 -0.7,-501.5; VCCPADXXXSUS_3P3_AD44 -0.7,-502.2; VCCPLLDDR_0_1P0_AU31 -0.7,-502.9; VCCPLLDDR_1_1P0_W31 -0.7,-503.6; VCCRAMCPUSI0GT_MOD3_1P03_AJ31 -0.7,-504.3; VCCRAMCPUSI1_1P03_AD31 -0.7,-506.4; VCCRAMCPUSI1_1P03_AD32 -0.7,-507.1; VCCRAMCPUSI1_1P03_AF29 -0.7,-505; VCCRAMCPUSI1_1P03_AF31 -0.7,-505.7; VCCRAMCPUSI1_1P03_AG29 -0.7,-507.8; VCCRAMCPUSI1_1P03_AG31 -0.7,-508.5; VCCRAMCPUSI1_1P03_AG32 -0.7,-509.2; VCCRAMCPUSI1_1P03_SENSE_AF32 -0.7,-509.9; VCCRTC_3P3_AG42 -0.7,-510.6; VCCSFRPLLDDR_0_1P5_AT31 -0.7,-511.3; VCCSFRPLLDDR_1_1P5_V31 -0.7,-512; VCCSFRXXXSI0_1P35_AA32 -0.7,-513.4; VCCSFRXXXSI0_1P35_AA34 -0.7,-514.8; VCCSFRXXXSI0_1P35_V34 -0.7,-514.1; VCCSFRXXXSI0_1P35_W34 -0.7,-512.7; VCCUSBSUS_1P8_AU46 -0.7,-515.5; VCCUSBSUS_1P8_AU47 -0.7,-516.2; VCCUSBSUS_3P3_AU42 -0.7,-517.6; VCCUSBSUS_3P3_AW42 -0.7,-516.9; VNN_AD36 -0.7,-519; VNN_AD39 -0.7,-520.4; VNN_AF36 -0.7,-518.3; VNN_AF39 -0.7,-519.7; VNN_AG36 -0.7,-521.1; VNN_AG39 -0.7,-521.8; VNN_AJ36 -0.7,-523.9; VNN_AJ39 -0.7,-524.6; VNN_AL36 -0.7,-522.5; VNN_AL39 -0.7,-523.2; VNN_AM25 -0.7,-525.3; VNN_AM26 -0.7,-526; VNN_AM28 -0.7,-526.7; VNN_AM29 -0.7,-527.4; VNN_AM31 -0.7,-528.1; VNN_AM32 -0.7,-528.8; VNN_AM34 -0.7,-529.5; VNN_AM36 -0.7,-530.2; VNN_AM38 -0.7,-530.9; VNN_AM39 -0.7,-531.6; VNN_AM41 -0.7,-532.3; VNN_AM42 -0.7,-533; VSS_A05 -0.7,-533.7; VSS_A09 -0.7,-535.1; VSS_A12 -0.7,-535.8; VSS_A15 -0.7,-537.9; VSS_A18 -0.7,-538.6; VSS_A24 -0.7,-540; VSS_A30 -0.7,-542.8; VSS_A33 -0.7,-543.5; VSS_A45 -0.7,-545.6; VSS_A48 -0.7,-546.3; VSS_A51 -0.7,-547.7; VSS_A57 -0.7,-549.8; VSS_A59 -0.7,-550.5; VSS_A61 -0.7,-551.9; VSS_A62 -0.7,-554; VSS_A64 -0.7,-555.4; VSS_A66 -0.7,-556.8; VSS_AA03 -0.7,-666; VSS_AA05 -0.7,-667.4; VSS_AA23 -0.7,-668.8; VSS_AA25 -0.7,-669.5; VSS_AA26 -0.7,-670.9; VSS_AA28 -0.7,-671.6; VSS_AA29 -0.7,-672.3; VSS_AA31 -0.7,-673.7; VSS_AA36 -0.7,-676.5; VSS_AA42 -0.7,-677.9; VSS_AA44 -0.7,-678.6; VSS_AA62 -0.7,-680.7; VSS_AA64 -0.7,-682.1; VSS_AA66 -0.7,-683.5; VSS_AB01 -0.7,-684.2; VSS_AB05 -0.7,-687; VSS_AB20 -0.7,-688.4; VSS_AC12 -0.7,-692.6; VSS_AC18 -0.7,-694.7; VSS_AC20 -0.7,-695.4; VSS_AC21 -0.7,-696.8; VSS_AC23 -0.7,-697.5; VSS_AC28 -0.7,-698.2; VSS_AC29 -0.7,-698.9; VSS_AC31 -0.7,-700.3; VSS_AC32 -0.7,-701; VSS_AC34 -0.7,-701.7; VSS_AC36 -0.7,-702.4; VSS_AC46 -0.7,-706.6; VSS_AC50 -0.7,-679.3; VSS_AC55 -0.7,-681.4; VSS_AC59 -0.7,-684.9; VSS_AD02 -0.7,-685.6; VSS_AD04 -0.7,-686.3; VSS_AD05 -0.7,-687.7; VSS_AD09 -0.7,-689.1; VSS_AD14 -0.7,-690.5; VSS_AD17 -0.7,-691.9; VSS_AD18 -0.7,-693.3; VSS_AD20 -0.7,-694; VSS_AD34 -0.7,-699.6; VSS_AD41 -0.7,-703.1; VSS_AD46 -0.7,-704.5; VSS_AD47 -0.7,-705.9; VSS_AD52 -0.7,-708; VSS_AD56 -0.7,-680; VSS_AD62 -0.7,-682.8; VSS_AE47 -0.7,-689.8; VSS_AE64 -0.7,-691.2; VSS_AF28 -0.7,-696.1; VSS_AF44 -0.7,-703.8; VSS_AF62 -0.7,-705.2; VSS_AG05 -0.7,-707.3; VSS_AG10 -0.7,-709.4; VSS_AG16 -0.7,-712.9; VSS_AG23 -0.7,-715.7; VSS_AG25 -0.7,-716.4; VSS_AG26 -0.7,-718.5; VSS_AG28 -0.7,-719.2; VSS_AG34 -0.7,-722; VSS_AG41 -0.7,-724.8; VSS_AG44 -0.7,-725.5; VSS_AG48 -0.7,-726.2; VSS_AG53 -0.7,-728.3; VSS_AG57 -0.7,-733.2; VSS_AG63 -0.7,-733.9; VSS_AG64 -0.7,-734.6; VSS_AG66 -0.7,-735.3; VSS_AH11 -0.7,-710.1; VSS_AH17 -0.7,-713.6; VSS_AH53 -0.7,-717.1; VSS_AH57 -0.7,-719.9; VSS_AH62 -0.7,-722.7; VSS_AJ28 -0.7,-726.9; VSS_AJ32 -0.7,-729; VSS_AJ44 -0.7,-736; VSS_AJ46 -0.7,-736.7; VSS_AJ47 -0.7,-737.4; VSS_AK03 -0.7,-738.1; VSS_AK05 -0.7,-708.7; VSS_AK62 -0.7,-710.8; VSS_AK64 -0.7,-711.5; VSS_AK66 -0.7,-712.2; VSS_AL01 -0.7,-714.3; VSS_AL05 -0.7,-715; VSS_AL09 -0.7,-717.8; VSS_AL14 -0.7,-720.6; VSS_AL17 -0.7,-721.3; VSS_AL18 -0.7,-723.4; VSS_AL20 -0.7,-724.1; VSS_AL29 -0.7,-727.6; VSS_AL38 -0.7,-729.7; VSS_AL42 -0.7,-730.4; VSS_AL44 -0.7,-731.1; VSS_AL50 -0.7,-731.8; VSS_AL55 -0.7,-732.5; VSS_AL59 -0.7,-740.2; VSS_AM12 -0.7,-744.4; VSS_AM18 -0.7,-747.2; VSS_AM20 -0.7,-748.6; VSS_AM21 -0.7,-750; VSS_AM23 -0.7,-752.1; VSS_AM44 -0.7,-763.3; VSS_AM46 -0.7,-764; VSS_AM50 -0.7,-765.4; VSS_AM55 -0.7,-767.5; VSS_AM59 -0.7,-768.9; VSS_AN05 -0.7,-739.5; VSS_AN47 -0.7,-740.9; VSS_AN66 -0.7,-742.3; VSS_AP05 -0.7,-745.1; VSS_AP23 -0.7,-746.5; VSS_AP25 -0.7,-747.9; VSS_AP26 -0.7,-749.3; VSS_AP28 -0.7,-750.7; VSS_AP29 -0.7,-752.8; VSS_AP31 -0.7,-753.5; VSS_AP32 -0.7,-754.2; VSS_AP34 -0.7,-755.6; VSS_AP36 -0.7,-757; VSS_AP38 -0.7,-758.4; VSS_AP39 -0.7,-759.1; VSS_AP41 -0.7,-759.8; VSS_AP42 -0.7,-760.5; VSS_AP44 -0.7,-761.2; VSS_AP46 -0.7,-761.9; VSS_AP64 -0.7,-762.6; VSS_AR08 -0.7,-764.7; VSS_AR13 -0.7,-766.1; VSS_AR17 -0.7,-768.2; VSS_AR19 -0.7,-769.6; VSS_AR50 -0.7,-738.8; VSS_AR56 -0.7,-741.6; VSS_AR60 -0.7,-743; VSS_AR62 -0.7,-743.7; VSS_AT05 -0.7,-745.8; VSS_AT11 -0.7,-751.4; VSS_AT16 -0.7,-754.9; VSS_AT17 -0.7,-756.3; VSS_AT19 -0.7,-757.7; VSS_AT44 -0.7,-766.8; VSS_AT53 -0.7,-770.3; VSS_AT57 -0.7,-771; VSS_AT64 -0.7,-773.1; VSS_AT66 -0.7,-774.5; VSS_AU04 -0.7,-778.7; VSS_AU62 -0.7,-789.9; VSS_AV02 -0.7,-791.3; VSS_AV04 -0.7,-792; VSS_AV05 -0.7,-792.7; VSS_AW05 -0.7,-794.8; VSS_AW09 -0.7,-796.2; VSS_AW14 -0.7,-799; VSS_AW19 -0.7,-771.7; VSS_AW23 -0.7,-772.4; VSS_AW25 -0.7,-773.8; VSS_AW26 -0.7,-775.2; VSS_AW28 -0.7,-776.6; VSS_AW30 -0.7,-778; VSS_AW31 -0.7,-779.4; VSS_AW32 -0.7,-780.8; VSS_AW34 -0.7,-781.5; VSS_AW46 -0.7,-783.6; VSS_AW47 -0.7,-785; VSS_AW49 -0.7,-785.7; VSS_AW50 -0.7,-786.4; VSS_AW52 -0.7,-787.1; VSS_AW55 -0.7,-788.5; VSS_AW59 -0.7,-790.6; VSS_AY05 -0.7,-795.5; VSS_AY12 -0.7,-797.6; VSS_AY38 -0.7,-775.9; VSS_AY45 -0.7,-777.3; VSS_AY52 -0.7,-780.1; VSS_AY55 -0.7,-782.2; VSS_AY62 -0.7,-782.9; VSS_B10 -0.7,-557.5; VSS_B26 -0.7,-565.2; VSS_B41 -0.7,-571.5; VSS_B55 -0.7,-536.5; VSS_BA17 -0.7,-784.3; VSS_BA29 -0.7,-787.8; VSS_BA34 -0.7,-789.2; VSS_BA42 -0.7,-793.4; VSS_BA49 -0.7,-794.1; VSS_BB05 -0.7,-796.9; VSS_BB17 -0.7,-798.3; VSS_BB34 -0.7,-801.1; VSS_BB53 -0.7,-803.2; VSS_BB54 -0.7,-803.9; VSS_BB56 -0.7,-805.3; VSS_BB57 -0.7,-806; VSS_BB62 -0.7,-808.1; VSS_BB65 -0.7,-810.2; VSS_BB66 -0.7,-810.9; VSS_BC05 -0.7,-813.7; VSS_BC30 -0.7,-820; VSS_BC37 -0.7,-820.7; VSS_BC46 -0.7,-822.1; VSS_BD32 -0.7,-806.7; VSS_BD34 -0.7,-807.4; VSS_BD38 -0.7,-808.8; VSS_BD41 -0.7,-809.5; VSS_BD45 -0.7,-811.6; VSS_BD50 -0.7,-814.4; VSS_BD53 -0.7,-815.1; VSS_BD59 -0.7,-815.8; VSS_BD60 -0.7,-816.5; VSS_BD62 -0.7,-817.2; VSS_BD63 -0.7,-817.9; VSS_BD65 -0.7,-818.6; VSS_BE05 -0.7,-819.3; VSS_BE32 -0.7,-821.4; VSS_BE42 -0.7,-823.5; VSS_BE49 -0.7,-824.9; VSS_BE57 -0.7,-825.6; VSS_BE66 -0.7,-799.7; VSS_BF01 -0.7,-800.4; VSS_BF03 -0.7,-801.8; VSS_BF04 -0.7,-802.5; VSS_BF29 -0.7,-804.6; VSS_BF62 -0.7,-812.3; VSS_BG01 -0.7,-813; VSS_BG32 -0.7,-822.8; VSS_BG37 -0.7,-824.2; VSS_BG46 -0.7,-826.3; VSS_BG54 -0.7,-829.8; VSS_BG63 -0.7,-833.3; VSS_BG66 -0.7,-835.4; VSS_BH32 -0.7,-843.1; VSS_BH34 -0.7,-844.5; VSS_BH41 -0.7,-845.2; VSS_BH50 -0.7,-848; VSS_BH60 -0.7,-850.8; VSS_BH62 -0.7,-852.9; VSS_BJ01 -0.7,-855.7; VSS_BJ66 -0.7,-858.5; VSS_BK01 -0.7,-859.2; VSS_BK08 -0.7,-862; VSS_BK10 -0.7,-862.7; VSS_BK15 -0.7,-827; VSS_BK17 -0.7,-828.4; VSS_BK18 -0.7,-829.1; VSS_BK19 -0.7,-830.5; VSS_BK21 -0.7,-831.9; VSS_BK22 -0.7,-832.6; VSS_BK24 -0.7,-834; VSS_BK26 -0.7,-836.1; VSS_BK27 -0.7,-836.8; VSS_BK28 -0.7,-838.2; VSS_BK30 -0.7,-838.9; VSS_BK31 -0.7,-840.3; VSS_BK36 -0.7,-841.7; VSS_BK37 -0.7,-842.4; VSS_BK39 -0.7,-843.8; VSS_BK42 -0.7,-845.9; VSS_BK44 -0.7,-846.6; VSS_BK45 -0.7,-847.3; VSS_BK46 -0.7,-848.7; VSS_BK48 -0.7,-849.4; VSS_BK49 -0.7,-850.1; VSS_BK51 -0.7,-851.5; VSS_BK53 -0.7,-853.6; VSS_BK56 -0.7,-856.4; VSS_BK57 -0.7,-857.1; VSS_BK58 -0.7,-857.8; VSS_BK64 -0.7,-859.9; VSS_BK66 -0.7,-861.3; VSS_BL14 -0.7,-863.4; VSS_BL19 -0.7,-827.7; VSS_BL25 -0.7,-831.2; VSS_BL30 -0.7,-834.7; VSS_BL34 -0.7,-837.5; VSS_BL37 -0.7,-839.6; VSS_BL43 -0.7,-841; VSS_BM01 -0.7,-852.2; VSS_BM03 -0.7,-854.3; VSS_BM05 -0.7,-855; VSS_BM22 -0.7,-860.6; VSS_BM45 -0.7,-864.1; VSS_BM61 -0.7,-866.2; VSS_BM62 -0.7,-867.6; VSS_BM64 -0.7,-868.3; VSS_BM66 -0.7,-869.7; VSS_BN14 -0.7,-871.8; VSS_BN30 -0.7,-876.7; VSS_BN37 -0.7,-877.4; VSS_BP01 -0.7,-878.1; VSS_BP03 -0.7,-878.8; VSS_BP05 -0.7,-879.5; VSS_BP10 -0.7,-880.2; VSS_BP13 -0.7,-880.9; VSS_BP22 -0.7,-881.6; VSS_BP31 -0.7,-864.8; VSS_BP37 -0.7,-865.5; VSS_BP40 -0.7,-866.9; VSS_BP46 -0.7,-869; VSS_BP52 -0.7,-870.4; VSS_BP55 -0.7,-871.1; VSS_BP58 -0.7,-872.5; VSS_BP59 -0.7,-873.2; VSS_BP61 -0.7,-873.9; VSS_BP62 -0.7,-874.6; VSS_BP64 -0.7,-875.3; VSS_BP66 -0.7,-876; VSS_C03 -0.7,-539.3; VSS_C06 -0.7,-540.7; VSS_C18 -0.7,-544.2; VSS_C33 -0.7,-548.4; VSS_C45 -0.7,-552.6; VSS_C49 -0.7,-554.7; VSS_C51 -0.7,-556.1; VSS_C58 -0.7,-558.2; VSS_C64 -0.7,-560.3; VSS_C66 -0.7,-561.7; VSS_D06 -0.7,-563.1; VSS_D10 -0.7,-565.9; VSS_D26 -0.7,-534.4; VSS_D33 -0.7,-537.2; VSS_D41 -0.7,-541.4; VSS_D42 -0.7,-542.1; VSS_D51 -0.7,-544.9; VSS_D55 -0.7,-547; VSS_D59 -0.7,-549.1; VSS_E01 -0.7,-551.2; VSS_E03 -0.7,-553.3; VSS_E10 -0.7,-558.9; VSS_E13 -0.7,-559.6; VSS_E14 -0.7,-561; VSS_E16 -0.7,-562.4; VSS_E18 -0.7,-563.8; VSS_E19 -0.7,-564.5; VSS_E21 -0.7,-566.6; VSS_E22 -0.7,-567.3; VSS_E23 -0.7,-568; VSS_E25 -0.7,-568.7; VSS_E27 -0.7,-569.4; VSS_E28 -0.7,-570.1; VSS_E30 -0.7,-570.8; VSS_E31 -0.7,-572.2; VSS_E34 -0.7,-572.9; VSS_E36 -0.7,-573.6; VSS_E37 -0.7,-575.7; VSS_E39 -0.7,-577.1; VSS_E40 -0.7,-577.8; VSS_E41 -0.7,-578.5; VSS_E43 -0.7,-579.9; VSS_E45 -0.7,-580.6; VSS_E46 -0.7,-581.3; VSS_E48 -0.7,-582; VSS_E49 -0.7,-583.4; VSS_E50 -0.7,-584.8; VSS_E52 -0.7,-586.2; VSS_E54 -0.7,-587.6; VSS_E55 -0.7,-588.3; VSS_E59 -0.7,-589; VSS_E61 -0.7,-589.7; VSS_E64 -0.7,-590.4; VSS_E66 -0.7,-592.5; VSS_F01 -0.7,-594.6; VSS_F04 -0.7,-596; VSS_F05 -0.7,-598.1; VSS_F63 -0.7,-598.8; VSS_F66 -0.7,-600.9; VSS_G32 -0.7,-606.5; VSS_G34 -0.7,-607.9; VSS_G41 -0.7,-608.6; VSS_G48 -0.7,-609.3; VSS_G56 -0.7,-574.3; VSS_G59 -0.7,-576.4; VSS_H01 -0.7,-579.2; VSS_H34 -0.7,-591.1; VSS_H37 -0.7,-593.2; VSS_H38 -0.7,-595.3; VSS_H41 -0.7,-596.7; VSS_H44 -0.7,-599.5; VSS_H46 -0.7,-601.6; VSS_H52 -0.7,-603; VSS_H54 -0.7,-603.7; VSS_H56 -0.7,-604.4; VSS_H58 -0.7,-605.1; VSS_H59 -0.7,-605.8; VSS_H66 -0.7,-607.2; VSS_J29 -0.7,-575; VSS_J63 -0.7,-582.7; VSS_J64 -0.7,-584.1; VSS_J66 -0.7,-585.5; VSS_K01 -0.7,-586.9; VSS_K32 -0.7,-591.8; VSS_K34 -0.7,-593.9; VSS_K42 -0.7,-597.4; VSS_K50 -0.7,-600.2; VSS_K62 -0.7,-602.3; VSS_L30 -0.7,-610; VSS_L34 -0.7,-610.7; VSS_L48 -0.7,-613.5; VSS_L50 -0.7,-614.2; VSS_L60 -0.7,-617.7; VSS_M05 -0.7,-621.9; VSS_M37 -0.7,-623.3; VSS_M38 -0.7,-624; VSS_M44 -0.7,-626.1; VSS_M46 -0.7,-626.8; VSS_M52 -0.7,-628.9; VSS_M54 -0.7,-631; VSS_M56 -0.7,-633.1; VSS_M57 -0.7,-634.5; VSS_M59 -0.7,-635.2; VSS_M60 -0.7,-635.9; VSS_M66 -0.7,-639.4; VSS_N01 -0.7,-640.1; VSS_N05 -0.7,-644.3; VSS_N10 -0.7,-611.4; VSS_N34 -0.7,-615.6; VSS_N48 -0.7,-617; VSS_N50 -0.7,-618.4; VSS_N62 -0.7,-619.1; VSS_N63 -0.7,-620.5; VSS_N65 -0.7,-621.2; VSS_P29 -0.7,-624.7; VSS_P32 -0.7,-627.5; VSS_P34 -0.7,-629.6; VSS_P37 -0.7,-631.7; VSS_P44 -0.7,-636.6; VSS_R02 -0.7,-640.8; VSS_R04 -0.7,-642.2; VSS_R05 -0.7,-643.6; VSS_R12 -0.7,-612.1; VSS_R30 -0.7,-612.8; VSS_R38 -0.7,-614.9; VSS_R52 -0.7,-616.3; VSS_R56 -0.7,-619.8; VSS_R62 -0.7,-622.6; VSS_T05 -0.7,-625.4; VSS_T18 -0.7,-628.2; VSS_T20 -0.7,-630.3; VSS_T21 -0.7,-632.4; VSS_T23 -0.7,-633.8; VSS_T28 -0.7,-637.3; VSS_T29 -0.7,-638; VSS_T31 -0.7,-638.7; VSS_T34 -0.7,-641.5; VSS_T36 -0.7,-642.9; VSS_T41 -0.7,-645; VSS_T42 -0.7,-646.4; VSS_T47 -0.7,-648.5; VSS_T52 -0.7,-649.9; VSS_T56 -0.7,-652; VSS_T62 -0.7,-654.1; VSS_U09 -0.7,-659.7; VSS_U14 -0.7,-661.1; VSS_U62 -0.7,-661.8; VSS_U63 -0.7,-663.2; VSS_U65 -0.7,-663.9; VSS_V05 -0.7,-665.3; VSS_V32 -0.7,-674.4; VSS_V36 -0.7,-675.1; VSS_V42 -0.7,-645.7; VSS_V44 -0.7,-647.1; VSS_W04 -0.7,-651.3; VSS_W11 -0.7,-653.4; VSS_W16 -0.7,-656.2; VSS_W17 -0.7,-657.6; VSS_W19 -0.7,-658.3; VSS_W32 -0.7,-664.6; VSS_W36 -0.7,-666.7; VSS_W39 -0.7,-668.1; VSS_W42 -0.7,-670.2; VSS_W48 -0.7,-673; VSS_W53 -0.7,-675.8; VSS_W57 -0.7,-677.2; VSS_W62 -0.7,-647.8; VSS_Y05 -0.7,-649.2; VSS_Y08 -0.7,-650.6; VSS_Y13 -0.7,-652.7; VSS_Y17 -0.7,-654.8; VSS_Y19 -0.7,-655.5; VSS_Y48 -0.7,-656.9; VSS_Y51 -0.7,-659; VSS_Y56 -0.7,-660.4; VSS_Y60 -0.7,-662.5; VSSA_USB[0]_AW44 -0.7,-882.3; VSSA_USB[1]_AU44 -0.7,-883; VSSCPUVIDSI0_1P03_SENSE_AF02 -0.7,-883.7; VSSRAMCPUSI1_1P03_SENSE_AF34 -0.7,-884.4